# Altium schematic symbol library fpga_xilinx_ultrascale.SchLib: 7 symbols (part 1 of 6)
Pins are listed as number, name and electrical type; pins without a type are passive.

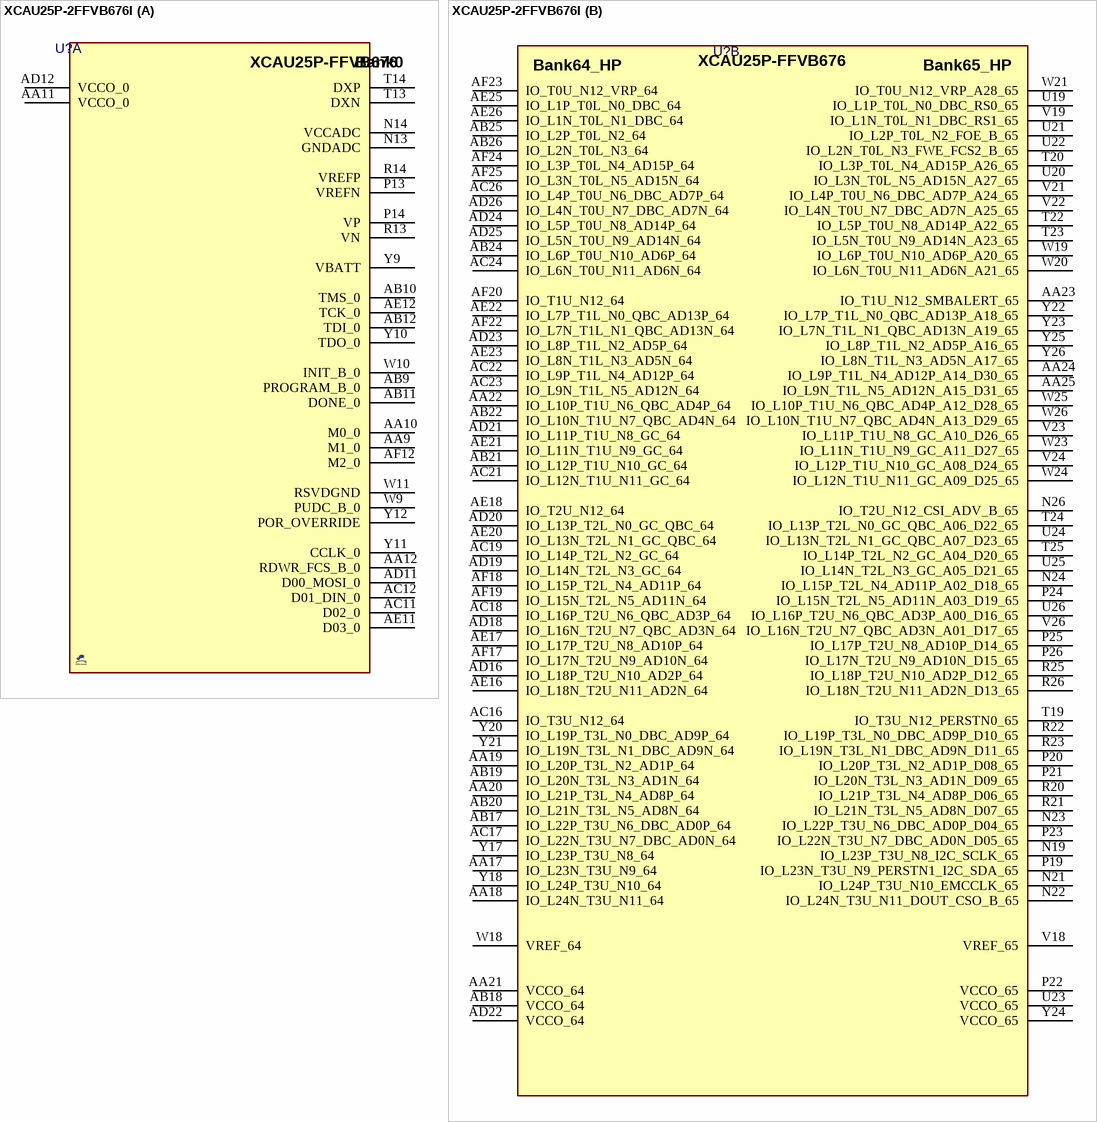
[diagram p0: symbol XCAU25P-2FFVB676I]

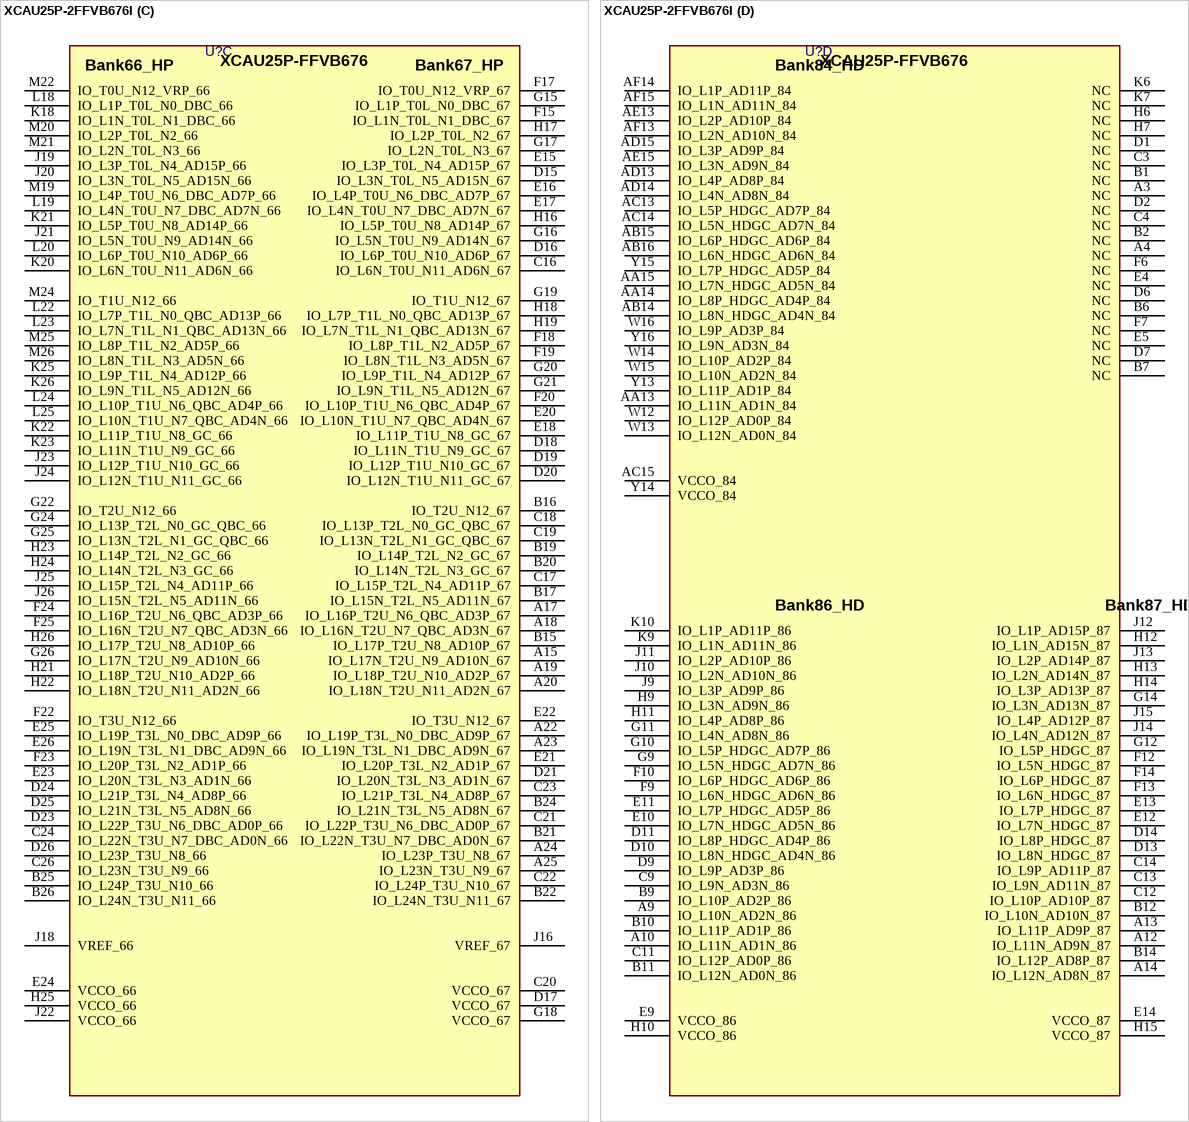
[diagram p1: symbol XCAU25P-2FFVB676I]

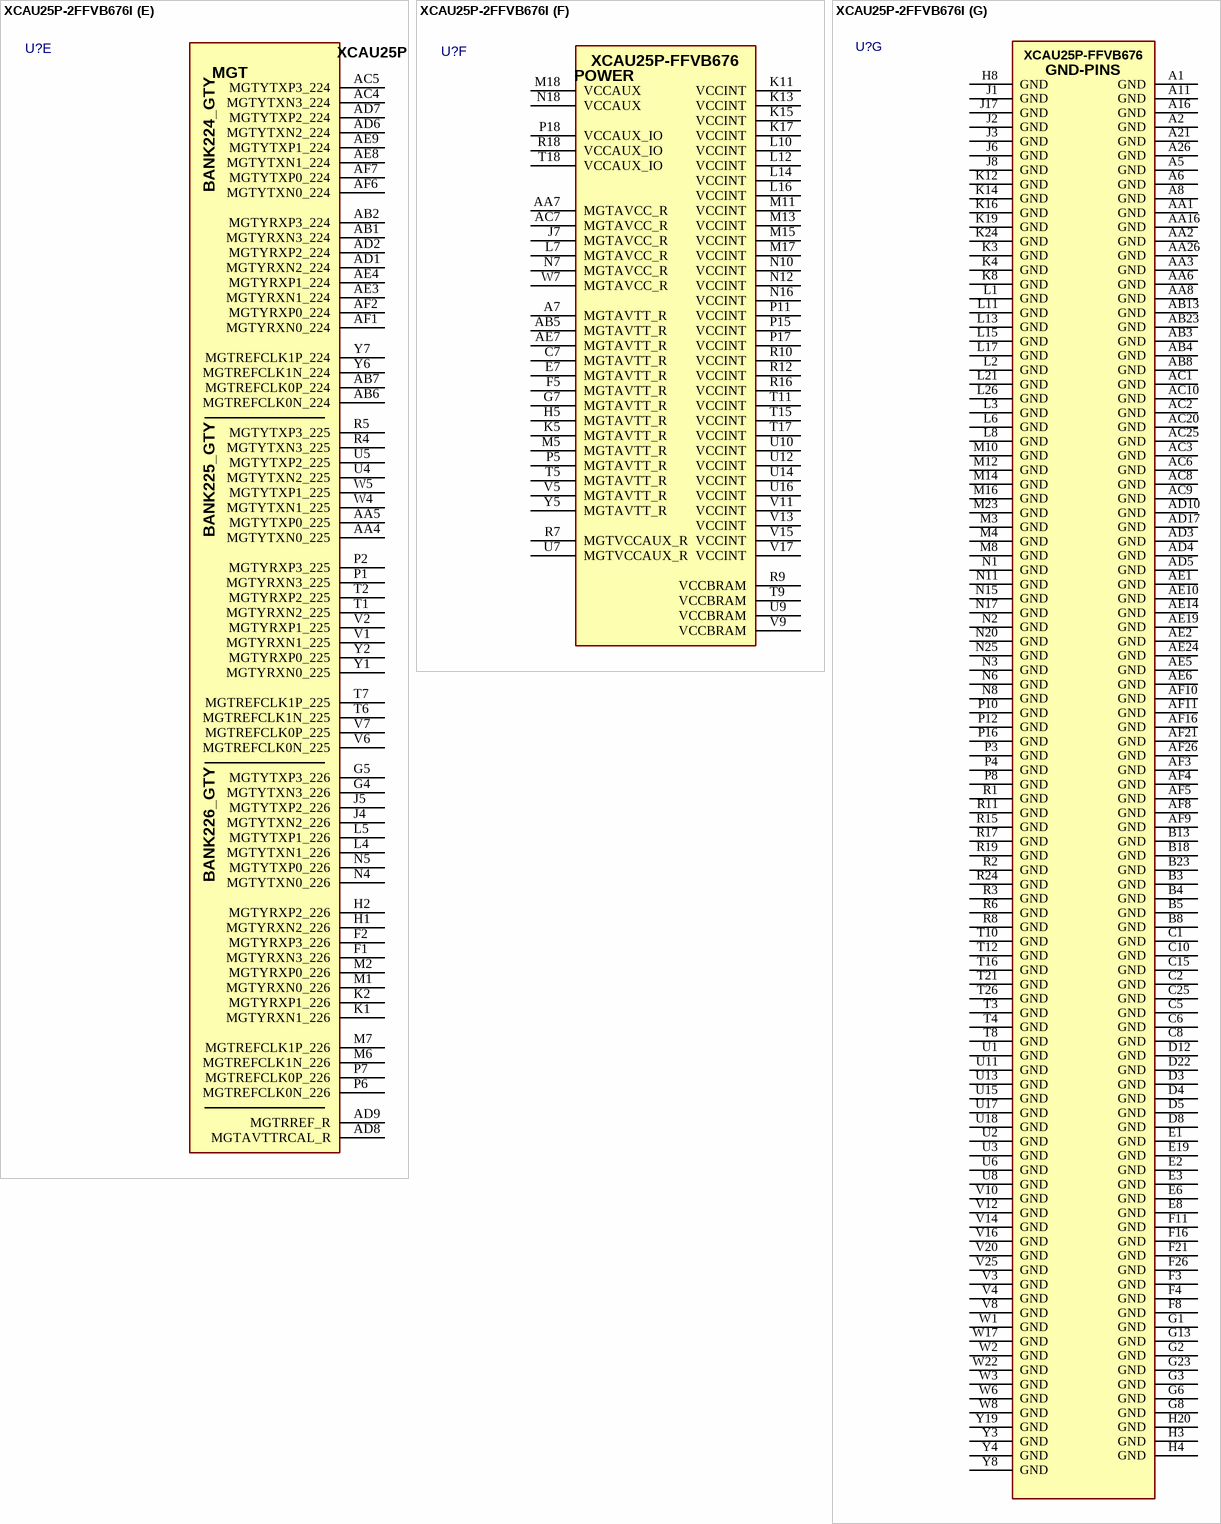
[diagram p2: symbol XCAU25P-2FFVB676I]

## XCAU25P-2FFVB676I
designator U?  (value not drawn)
Xilinx FPGA Ultrascale, ARTIX, AU25P, 280  I/O, 308.5K logic cell, 96 HR, 208 HP, 12 GY; PARAM2: 0.825V ~ 0.876V; ASSEMBLY: ASSEMBLY; MANF: XILINX; MANF_P#: XCAU25P-2FFVB676I; PRICE: 0; VALUE: XCAU25P-2FFVB676I; PACKAGE: FFVB676
footprint BGA100_676_S27 (BGA, 676-Leads, Body 27.0x27.0mm,  Pitch 1.00mm)
part A pins: AA9 M1_0, AA10 M0_0, AA11 VCCO_0, AA12 RDWR_FCS_B_0, AB9 PROGRAM_B_0, AB10 TMS_0, AB11 DONE_0, AB12 TDI_0, AC11 D02_0, AC12 D01_DIN_0, AD11 D00_MOSI_0, AD12 VCCO_0, AE11 D03_0, AE12 TCK_0, AF12 M2_0, N13 GNDADC, N14 VCCADC, P13 VREFN, P14 VP, R13 VN, R14 VREFP, T13 DXN, T14 DXP, W9 PUDC_B_0, W10 INIT_B_0, W11 RSVDGND, Y9 VBATT, Y10 TDO_0, Y11 CCLK_0, Y12 POR_OVERRIDE
part B pins: AA17 IO_L23N_T3U_N9_64, AA18 IO_L24N_T3U_N11_64, AA19 IO_L20P_T3L_N2_AD1P_64, AA20 IO_L21P_T3L_N4_AD8P_64, AA21 VCCO_64, AA22 IO_L10P_T1U_N6_QBC_AD4P_64, AA23 IO_T1U_N12_SMBALERT_65, AA24 IO_L9P_T1L_N4_AD12P_A14_D30_65, AA25 IO_L9N_T1L_N5_AD12N_A15_D31_65, AB17 IO_L22P_T3U_N6_DBC_AD0P_64, AB18 VCCO_64, AB19 IO_L20N_T3L_N3_AD1N_64, AB20 IO_L21N_T3L_N5_AD8N_64, AB21 IO_L12P_T1U_N10_GC_64, AB22 IO_L10N_T1U_N7_QBC_AD4N_64, AB24 IO_L6P_T0U_N10_AD6P_64, AB25 IO_L2P_T0L_N2_64, AB26 IO_L2N_T0L_N3_64, AC16 IO_T3U_N12_64, AC17 IO_L22N_T3U_N7_DBC_AD0N_64, AC18 IO_L16P_T2U_N6_QBC_AD3P_64, AC19 IO_L14P_T2L_N2_GC_64, AC21 IO_L12N_T1U_N11_GC_64, AC22 IO_L9P_T1L_N4_AD12P_64, AC23 IO_L9N_T1L_N5_AD12N_64, AC24 IO_L6N_T0U_N11_AD6N_64, AC26 IO_L4P_T0U_N6_DBC_AD7P_64, AD16 IO_L18P_T2U_N10_AD2P_64, AD18 IO_L16N_T2U_N7_QBC_AD3N_64, AD19 IO_L14N_T2L_N3_GC_64, AD20 IO_L13P_T2L_N0_GC_QBC_64, AD21 IO_L11P_T1U_N8_GC_64, AD22 VCCO_64, AD23 IO_L8P_T1L_N2_AD5P_64, AD24 IO_L5P_T0U_N8_AD14P_64, AD25 IO_L5N_T0U_N9_AD14N_64, AD26 IO_L4N_T0U_N7_DBC_AD7N_64, AE16 IO_L18N_T2U_N11_AD2N_64, AE17 IO_L17P_T2U_N8_AD10P_64, AE18 IO_T2U_N12_64, AE20 IO_L13N_T2L_N1_GC_QBC_64, AE21 IO_L11N_T1U_N9_GC_64, AE22 IO_L7P_T1L_N0_QBC_AD13P_64, AE23 IO_L8N_T1L_N3_AD5N_64, AE25 IO_L1P_T0L_N0_DBC_64, AE26 IO_L1N_T0L_N1_DBC_64, AF17 IO_L17N_T2U_N9_AD10N_64, AF18 IO_L15P_T2L_N4_AD11P_64, AF19 IO_L15N_T2L_N5_AD11N_64, AF20 IO_T1U_N12_64, AF22 IO_L7N_T1L_N1_QBC_AD13N_64, AF23 IO_T0U_N12_VRP_64, AF24 IO_L3P_T0L_N4_AD15P_64, AF25 IO_L3N_T0L_N5_AD15N_64, N19 IO_L23P_T3U_N8_I2C_SCLK_65, N21 IO_L24P_T3U_N10_EMCCLK_65, N22 IO_L24N_T3U_N11_DOUT_CSO_B_65, N23 IO_L22P_T3U_N6_DBC_AD0P_D04_65, N24 IO_L15P_T2L_N4_AD11P_A02_D18_65, N26 IO_T2U_N12_CSI_ADV_B_65, P19 IO_L23N_T3U_N9_PERSTN1_I2C_SDA_65, P20 IO_L20P_T3L_N2_AD1P_D08_65, P21 IO_L20N_T3L_N3_AD1N_D09_65, P22 VCCO_65, P23 IO_L22N_T3U_N7_DBC_AD0N_D05_65, P24 IO_L15N_T2L_N5_AD11N_A03_D19_65, P25 IO_L17P_T2U_N8_AD10P_D14_65, P26 IO_L17N_T2U_N9_AD10N_D15_65, R20 IO_L21P_T3L_N4_AD8P_D06_65, R21 IO_L21N_T3L_N5_AD8N_D07_65, R22 IO_L19P_T3L_N0_DBC_AD9P_D10_65, R23 IO_L19N_T3L_N1_DBC_AD9N_D11_65, R25 IO_L18P_T2U_N10_AD2P_D12_65, R26 IO_L18N_T2U_N11_AD2N_D13_65, T19 IO_T3U_N12_PERSTN0_65, T20 IO_L3P_T0L_N4_AD15P_A26_65, T22 IO_L5P_T0U_N8_AD14P_A22_65, T23 IO_L5N_T0U_N9_AD14N_A23_65, T24 IO_L13P_T2L_N0_GC_QBC_A06_D22_65, T25 IO_L14P_T2L_N2_GC_A04_D20_65, U19 IO_L1P_T0L_N0_DBC_RS0_65, U20 IO_L3N_T0L_N5_AD15N_A27_65, U21 IO_L2P_T0L_N2_FOE_B_65, U22 IO_L2N_T0L_N3_FWE_FCS2_B_65, U23 VCCO_65, U24 IO_L13N_T2L_N1_GC_QBC_A07_D23_65, U25 IO_L14N_T2L_N3_GC_A05_D21_65, U26 IO_L16P_T2U_N6_QBC_AD3P_A00_D16_65, V18 VREF_65, V19 IO_L1N_T0L_N1_DBC_RS1_65, V21 IO_L4P_T0U_N6_DBC_AD7P_A24_65, V22 IO_L4N_T0U_N7_DBC_AD7N_A25_65, V23 IO_L11P_T1U_N8_GC_A10_D26_65, V24 IO_L12P_T1U_N10_GC_A08_D24_65, V26 IO_L16N_T2U_N7_QBC_AD3N_A01_D17_65, W18 VREF_64, W19 IO_L6P_T0U_N10_AD6P_A20_65, W20 IO_L6N_T0U_N11_AD6N_A21_65, W21 IO_T0U_N12_VRP_A28_65, W23 IO_L11N_T1U_N9_GC_A11_D27_65, W24 IO_L12N_T1U_N11_GC_A09_D25_65, W25 IO_L10P_T1U_N6_QBC_AD4P_A12_D28_65, W26 IO_L10N_T1U_N7_QBC_AD4N_A13_D29_65, Y17 IO_L23P_T3U_N8_64, Y18 IO_L24P_T3U_N10_64, Y20 IO_L19P_T3L_N0_DBC_AD9P_64, Y21 IO_L19N_T3L_N1_DBC_AD9N_64, Y22 IO_L7P_T1L_N0_QBC_AD13P_A18_65, Y23 IO_L7N_T1L_N1_QBC_AD13N_A19_65, Y24 VCCO_65, Y25 IO_L8P_T1L_N2_AD5P_A16_65, Y26 IO_L8N_T1L_N3_AD5N_A17_65
part C pins: A15 IO_L17N_T2U_N9_AD10N_67, A17 IO_L16P_T2U_N6_QBC_AD3P_67, A18 IO_L16N_T2U_N7_QBC_AD3N_67, A19 IO_L18P_T2U_N10_AD2P_67, A20 IO_L18N_T2U_N11_AD2N_67, A22 IO_L19P_T3L_N0_DBC_AD9P_67, A23 IO_L19N_T3L_N1_DBC_AD9N_67, A24 IO_L23P_T3U_N8_67, A25 IO_L23N_T3U_N9_67, B15 IO_L17P_T2U_N8_AD10P_67, B16 IO_T2U_N12_67, B17 IO_L15N_T2L_N5_AD11N_67, B19 IO_L14P_T2L_N2_GC_67, B20 IO_L14N_T2L_N3_GC_67, B21 IO_L22N_T3U_N7_DBC_AD0N_67, B22 IO_L24N_T3U_N11_67, B24 IO_L21N_T3L_N5_AD8N_67, B25 IO_L24P_T3U_N10_66, B26 IO_L24N_T3U_N11_66, C16 IO_L6N_T0U_N11_AD6N_67, C17 IO_L15P_T2L_N4_AD11P_67, C18 IO_L13P_T2L_N0_GC_QBC_67, C19 IO_L13N_T2L_N1_GC_QBC_67, C20 VCCO_67, C21 IO_L22P_T3U_N6_DBC_AD0P_67, C22 IO_L24P_T3U_N10_67, C23 IO_L21P_T3L_N4_AD8P_67, C24 IO_L22N_T3U_N7_DBC_AD0N_66, C26 IO_L23N_T3U_N9_66, D15 IO_L3N_T0L_N5_AD15N_67, D16 IO_L6P_T0U_N10_AD6P_67, D17 VCCO_67, D18 IO_L11N_T1U_N9_GC_67, D19 IO_L12P_T1U_N10_GC_67, D20 IO_L12N_T1U_N11_GC_67, D21 IO_L20N_T3L_N3_AD1N_67, D23 IO_L22P_T3U_N6_DBC_AD0P_66, D24 IO_L21P_T3L_N4_AD8P_66, D25 IO_L21N_T3L_N5_AD8N_66, D26 IO_L23P_T3U_N8_66, E15 IO_L3P_T0L_N4_AD15P_67, E16 IO_L4P_T0U_N6_DBC_AD7P_67, E17 IO_L4N_T0U_N7_DBC_AD7N_67, E18 IO_L11P_T1U_N8_GC_67, E20 IO_L10N_T1U_N7_QBC_AD4N_67, E21 IO_L20P_T3L_N2_AD1P_67, E22 IO_T3U_N12_67, E23 IO_L20N_T3L_N3_AD1N_66, E24 VCCO_66, E25 IO_L19P_T3L_N0_DBC_AD9P_66, E26 IO_L19N_T3L_N1_DBC_AD9N_66, F15 IO_L1N_T0L_N1_DBC_67, F17 IO_T0U_N12_VRP_67, F18 IO_L8P_T1L_N2_AD5P_67, F19 IO_L8N_T1L_N3_AD5N_67, F20 IO_L10P_T1U_N6_QBC_AD4P_67, F22 IO_T3U_N12_66, F23 IO_L20P_T3L_N2_AD1P_66, F24 IO_L16P_T2U_N6_QBC_AD3P_66, F25 IO_L16N_T2U_N7_QBC_AD3N_66, G15 IO_L1P_T0L_N0_DBC_67, G16 IO_L5N_T0U_N9_AD14N_67, G17 IO_L2N_T0L_N3_67, G18 VCCO_67, G19 IO_T1U_N12_67, G20 IO_L9P_T1L_N4_AD12P_67, G21 IO_L9N_T1L_N5_AD12N_67, G22 IO_T2U_N12_66, G24 IO_L13P_T2L_N0_GC_QBC_66, G25 IO_L13N_T2L_N1_GC_QBC_66, G26 IO_L17N_T2U_N9_AD10N_66, H16 IO_L5P_T0U_N8_AD14P_67, H17 IO_L2P_T0L_N2_67, H18 IO_L7P_T1L_N0_QBC_AD13P_67, H19 IO_L7N_T1L_N1_QBC_AD13N_67, H21 IO_L18P_T2U_N10_AD2P_66, H22 IO_L18N_T2U_N11_AD2N_66, H23 IO_L14P_T2L_N2_GC_66, H24 IO_L14N_T2L_N3_GC_66, H25 VCCO_66, H26 IO_L17P_T2U_N8_AD10P_66, J16 VREF_67, J18 VREF_66, J19 IO_L3P_T0L_N4_AD15P_66, J20 IO_L3N_T0L_N5_AD15N_66, J21 IO_L5N_T0U_N9_AD14N_66, J22 VCCO_66, J23 IO_L12P_T1U_N10_GC_66, J24 IO_L12N_T1U_N11_GC_66, J25 IO_L15P_T2L_N4_AD11P_66, J26 IO_L15N_T2L_N5_AD11N_66, K18 IO_L1N_T0L_N1_DBC_66, K20 IO_L6N_T0U_N11_AD6N_66, K21 IO_L5P_T0U_N8_AD14P_66, K22 IO_L11P_T1U_N8_GC_66, K23 IO_L11N_T1U_N9_GC_66, K25 IO_L9P_T1L_N4_AD12P_66, K26 IO_L9N_T1L_N5_AD12N_66, L18 IO_L1P_T0L_N0_DBC_66, L19 IO_L4N_T0U_N7_DBC_AD7N_66, L20 IO_L6P_T0U_N10_AD6P_66, L22 IO_L7P_T1L_N0_QBC_AD13P_66, L23 IO_L7N_T1L_N1_QBC_AD13N_66, L24 IO_L10P_T1U_N6_QBC_AD4P_66, L25 IO_L10N_T1U_N7_QBC_AD4N_66, M19 IO_L4P_T0U_N6_DBC_AD7P_66, M20 IO_L2P_T0L_N2_66, M21 IO_L2N_T0L_N3_66, M22 IO_T0U_N12_VRP_66, M24 IO_T1U_N12_66, M25 IO_L8P_T1L_N2_AD5P_66, M26 IO_L8N_T1L_N3_AD5N_66
part D pins: A3 NC, A4 NC, A9 IO_L10N_AD2N_86, A10 IO_L11N_AD1N_86, A12 IO_L11N_AD9N_87, A13 IO_L11P_AD9P_87, A14 IO_L12N_AD8N_87, AA13 IO_L11N_AD1N_84, AA14 IO_L8P_HDGC_AD4P_84, AA15 IO_L7N_HDGC_AD5N_84, AB14 IO_L8N_HDGC_AD4N_84, AB15 IO_L6P_HDGC_AD6P_84, AB16 IO_L6N_HDGC_AD6N_84, AC13 IO_L5P_HDGC_AD7P_84, AC14 IO_L5N_HDGC_AD7N_84, AC15 VCCO_84, AD13 IO_L4P_AD8P_84, AD14 IO_L4N_AD8N_84, AD15 IO_L3P_AD9P_84, AE13 IO_L2P_AD10P_84, AE15 IO_L3N_AD9N_84, AF13 IO_L2N_AD10N_84, AF14 IO_L1P_AD11P_84, AF15 IO_L1N_AD11N_84, B1 NC, B2 NC, B6 NC, B7 NC, B9 IO_L10P_AD2P_86, B10 IO_L11P_AD1P_86, B11 IO_L12N_AD0N_86, B12 IO_L10N_AD10N_87, B14 IO_L12P_AD8P_87, C3 NC, C4 NC, C9 IO_L9N_AD3N_86, C11 IO_L12P_AD0P_86, C12 IO_L10P_AD10P_87, C13 IO_L9N_AD11N_87, C14 IO_L9P_AD11P_87, D1 NC, D2 NC, D6 NC, D7 NC, D9 IO_L9P_AD3P_86, D10 IO_L8N_HDGC_AD4N_86, D11 IO_L8P_HDGC_AD4P_86, D13 IO_L8N_HDGC_87, D14 IO_L8P_HDGC_87, E4 NC, E5 NC, E9 VCCO_86, E10 IO_L7N_HDGC_AD5N_86, E11 IO_L7P_HDGC_AD5P_86, E12 IO_L7N_HDGC_87, E13 IO_L7P_HDGC_87, E14 VCCO_87, F6 NC, F7 NC, F9 IO_L6N_HDGC_AD6N_86, F10 IO_L6P_HDGC_AD6P_86, F12 IO_L5N_HDGC_87, F13 IO_L6N_HDGC_87, F14 IO_L6P_HDGC_87, G9 IO_L5N_HDGC_AD7N_86, G10 IO_L5P_HDGC_AD7P_86, G11 IO_L4N_AD8N_86, G12 IO_L5P_HDGC_87, G14 IO_L3N_AD13N_87, H6 NC, H7 NC, H9 IO_L3N_AD9N_86, H10 VCCO_86, H11 IO_L4P_AD8P_86, H12 IO_L1N_AD15N_87, H13 IO_L2N_AD14N_87, H14 IO_L3P_AD13P_87, H15 VCCO_87, J9 IO_L3P_AD9P_86, J10 IO_L2N_AD10N_86, J11 IO_L2P_AD10P_86, J12 IO_L1P_AD15P_87, J13 IO_L2P_AD14P_87, J14 IO_L4N_AD12N_87, J15 IO_L4P_AD12P_87, K6 NC, K7 NC, K9 IO_L1N_AD11N_86, K10 IO_L1P_AD11P_86, W12 IO_L12P_AD0P_84, W13 IO_L12N_AD0N_84, W14 IO_L10P_AD2P_84, W15 IO_L10N_AD2N_84, W16 IO_L9P_AD3P_84, Y13 IO_L11P_AD1P_84, Y14 VCCO_84, Y15 IO_L7P_HDGC_AD5P_84, Y16 IO_L9N_AD3N_84
part E pins: AA4 MGTYTXN0_225, AA5 MGTYTXP0_225, AB1 MGTYRXN3_224, AB2 MGTYRXP3_224, AB6 MGTREFCLK0N_224, AB7 MGTREFCLK0P_224, AC4 MGTYTXN3_224, AC5 MGTYTXP3_224, AD1 MGTYRXN2_224, AD2 MGTYRXP2_224, AD6 MGTYTXN2_224, AD7 MGTYTXP2_224, AD8 MGTAVTTRCAL_R, AD9 MGTRREF_R, AE3 MGTYRXN1_224, AE4 MGTYRXP1_224, AE8 MGTYTXN1_224, AE9 MGTYTXP1_224, AF1 MGTYRXN0_224, AF2 MGTYRXP0_224, AF6 MGTYTXN0_224, AF7 MGTYTXP0_224, F1 MGTYRXN3_226, F2 MGTYRXP3_226, G4 MGTYTXN3_226, G5 MGTYTXP3_226, H1 MGTYRXN2_226, H2 MGTYRXP2_226, J4 MGTYTXN2_226, J5 MGTYTXP2_226, K1 MGTYRXN1_226, K2 MGTYRXP1_226, L4 MGTYTXN1_226, L5 MGTYTXP1_226, M1 MGTYRXN0_226, M2 MGTYRXP0_226, M6 MGTREFCLK1N_226, M7 MGTREFCLK1P_226, N4 MGTYTXN0_226, N5 MGTYTXP0_226, P1 MGTYRXN3_225, P2 MGTYRXP3_225, P6 MGTREFCLK0N_226, P7 MGTREFCLK0P_226, R4 MGTYTXN3_225, R5 MGTYTXP3_225, T1 MGTYRXN2_225, T2 MGTYRXP2_225, T6 MGTREFCLK1N_225, T7 MGTREFCLK1P_225, U4 MGTYTXN2_225, U5 MGTYTXP2_225, V1 MGTYRXN1_225, V2 MGTYRXP1_225, V6 MGTREFCLK0N_225, V7 MGTREFCLK0P_225, W4 MGTYTXN1_225, W5 MGTYTXP1_225, Y1 MGTYRXN0_225, Y2 MGTYRXP0_225, Y6 MGTREFCLK1N_224, Y7 MGTREFCLK1P_224
part F pins: A7 MGTAVTT_R, AA7 MGTAVCC_R, AB5 MGTAVTT_R, AC7 MGTAVCC_R, AE7 MGTAVTT_R, C7 MGTAVTT_R, E7 MGTAVTT_R, F5 MGTAVTT_R, G7 MGTAVTT_R, H5 MGTAVTT_R, J7 MGTAVCC_R, K5 MGTAVTT_R, K11 VCCINT, K13 VCCINT, K15 VCCINT, K17 VCCINT, L7 MGTAVCC_R, L10 VCCINT, L12 VCCINT, L14 VCCINT, L16 VCCINT, M5 MGTAVTT_R, M11 VCCINT, M13 VCCINT, M15 VCCINT, M17 VCCINT, M18 VCCAUX, N7 MGTAVCC_R, N10 VCCINT, N12 VCCINT, N16 VCCINT, N18 VCCAUX, P5 MGTAVTT_R, P11 VCCINT, P15 VCCINT, P17 VCCINT, P18 VCCAUX_IO, R7 MGTVCCAUX_R, R9 VCCBRAM, R10 VCCINT, R12 VCCINT, R16 VCCINT, R18 VCCAUX_IO, T5 MGTAVTT_R, T9 VCCBRAM, T11 VCCINT, T15 VCCINT, T17 VCCINT, T18 VCCAUX_IO, U7 MGTVCCAUX_R, U9 VCCBRAM, U10 VCCINT, U12 VCCINT, U14 VCCINT, U16 VCCINT, V5 MGTAVTT_R, V9 VCCBRAM, V11 VCCINT, V13 VCCINT, V15 VCCINT, V17 VCCINT, W7 MGTAVCC_R, Y5 MGTAVTT_R
part G pins: A1 GND, A2 GND, A5 GND, A6 GND, A8 GND, A11 GND, A16 GND, A21 GND, A26 GND, AA1 GND, AA2 GND, AA3 GND, AA6 GND, AA8 GND, AA16 GND, AA26 GND, AB3 GND, AB4 GND, AB8 GND, AB13 GND, AB23 GND, AC1 GND, AC2 GND, AC3 GND, AC6 GND, AC8 GND, AC9 GND, AC10 GND, AC20 GND, AC25 GND, AD3 GND, AD4 GND, AD5 GND, AD10 GND, AD17 GND, AE1 GND, AE2 GND, AE5 GND, AE6 GND, AE10 GND, AE14 GND, AE19 GND, AE24 GND, AF3 GND, AF4 GND, AF5 GND, AF8 GND, AF9 GND, AF10 GND, AF11 GND, AF16 GND, AF21 GND, AF26 GND, B3 GND, B4 GND, B5 GND, B8 GND, B13 GND, B18 GND, B23 GND, C1 GND, C2 GND, C5 GND, C6 GND, C8 GND, C10 GND, C15 GND, C25 GND, D3 GND, D4 GND, D5 GND, D8 GND, D12 GND, D22 GND, E1 GND, E2 GND, E3 GND, E6 GND, E8 GND, E19 GND, F3 GND, F4 GND, F8 GND, F11 GND, F16 GND, F21 GND, F26 GND, G1 GND, G2 GND, G3 GND, G6 GND, G8 GND, G13 GND, G23 GND, H3 GND, H4 GND, H8 GND, H20 GND, J1 GND, J2 GND, J3 GND, J6 GND, J8 GND, J17 GND, K3 GND, K4 GND, K8 GND, K12 GND, K14 GND, K16 GND, K19 GND, K24 GND, L1 GND, L2 GND, L3 GND, L6 GND, L8 GND, L11 GND, L13 GND, L15 GND, L17 GND, L21 GND, L26 GND, M3 GND, M4 GND, M8 GND, M10 GND, M12 GND, M14 GND, M16 GND, M23 GND, N1 GND, N2 GND, N3 GND, N6 GND, N8 GND, N11 GND, N15 GND, N17 GND, N20 GND, N25 GND, P3 GND, P4 GND, P8 GND, P10 GND, P12 GND, P16 GND, R1 GND, R2 GND, R3 GND, R6 GND, R8 GND, R11 GND, R15 GND, R17 GND, R19 GND, R24 GND, T3 GND, T4 GND, T8 GND, T10 GND, T12 GND, T16 GND, T21 GND, T26 GND, U1 GND, U2 GND, U3 GND, U6 GND, U8 GND, U11 GND, U13 GND, U15 GND, U17 GND, U18 GND, V3 GND, V4 GND, V8 GND, V10 GND, V12 GND, V14 GND, V16 GND, V20 GND, V25 GND, W1 GND, W2 GND, W3 GND, W6 GND, W8 GND, W17 GND, W22 GND, Y3 GND, Y4 GND, Y8 GND, Y19 GND
part A text: XCAU25P-FFVB676; Bank0
part B text: XCAU25P-FFVB676; Bank64_HP; Bank65_HP
part C text: XCAU25P-FFVB676; Bank66_HP; Bank67_HP
part D text: XCAU25P-FFVB676; Bank84_HD; Bank86_HD; Bank87_HD
part E text: XCAU25P-FFVB676; MGT; BANK224_GTY; BANK225_GTY; BANK226_GTY
part F text: XCAU25P-FFVB676; POWER
part G text: XCAU25P-FFVB676; GND-PINS

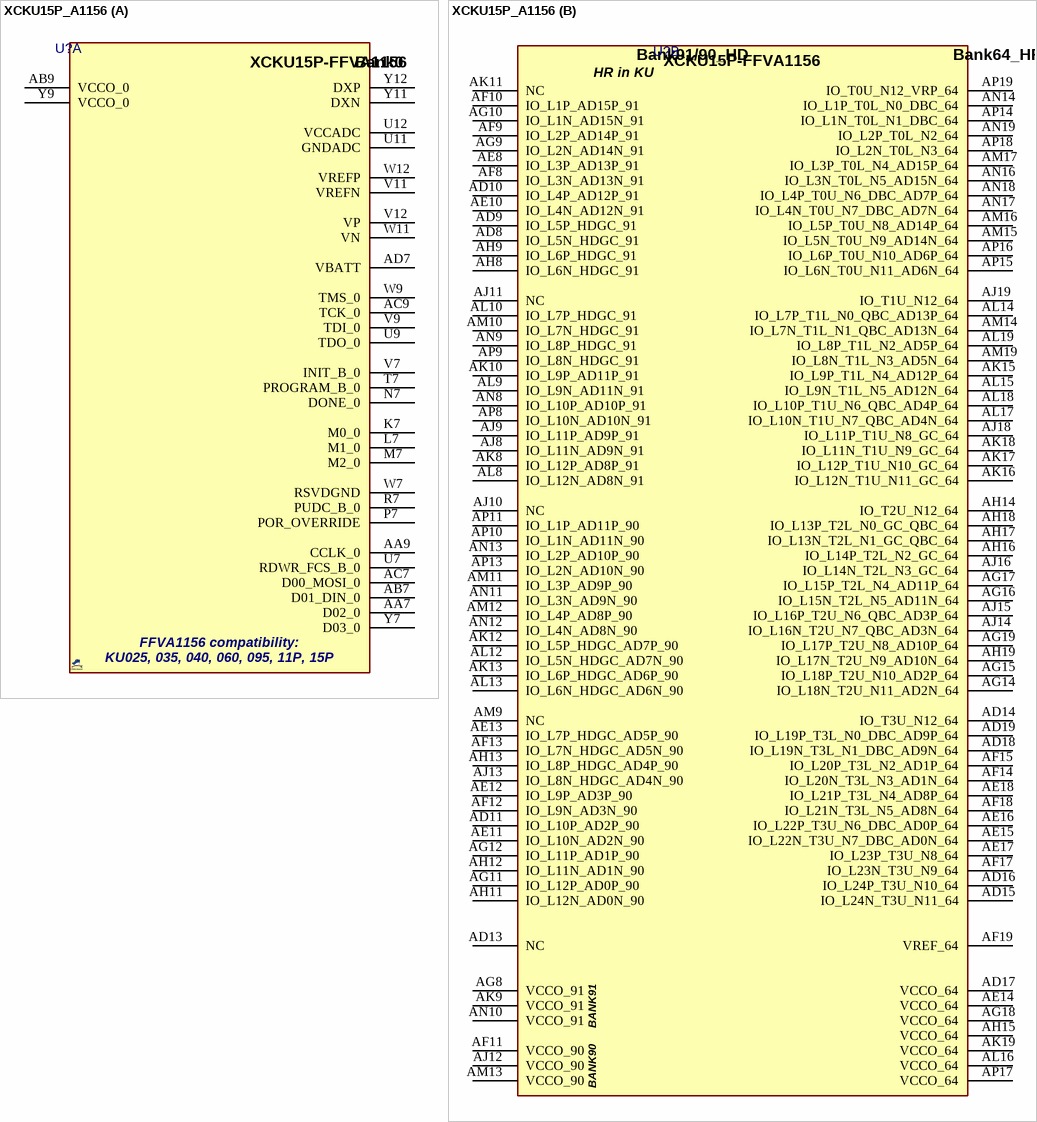
[diagram p3: symbol XCKU15P_A1156]

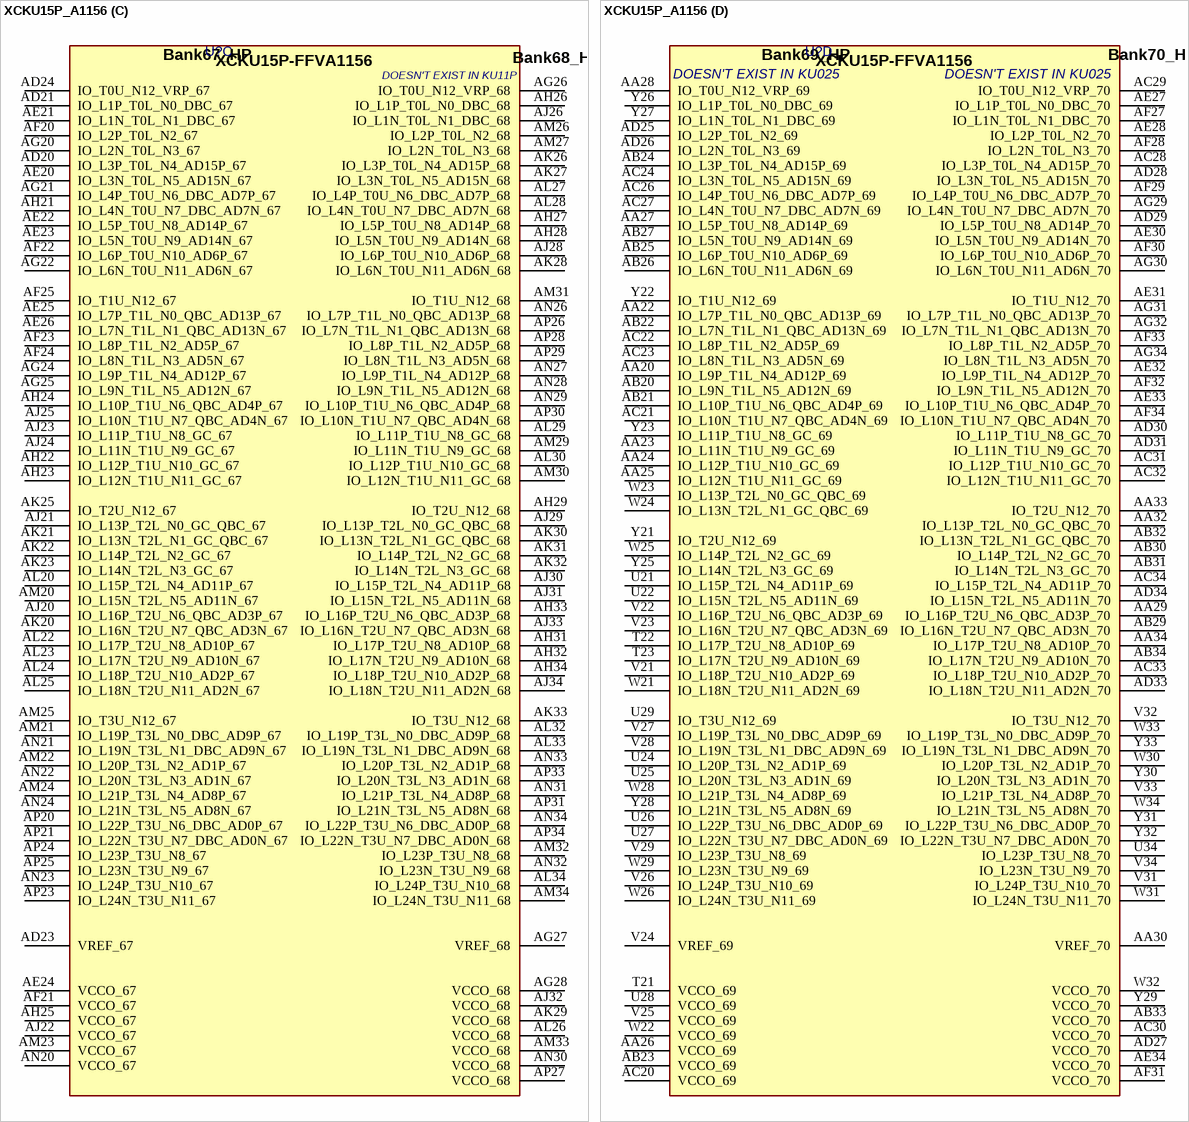
[diagram p4: symbol XCKU15P_A1156]

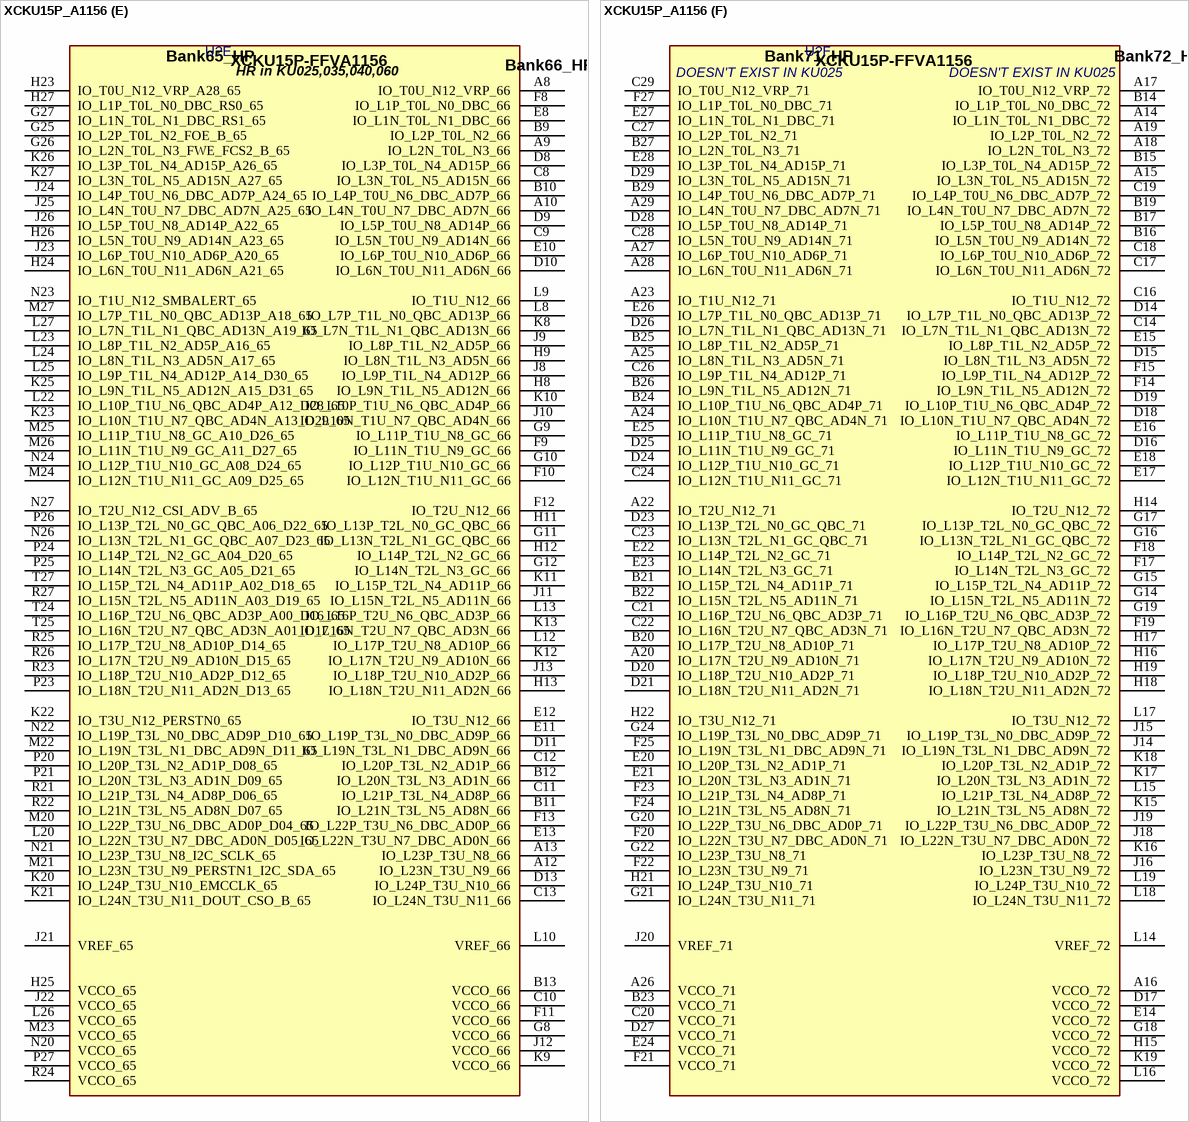
[diagram p5: symbol XCKU15P_A1156]

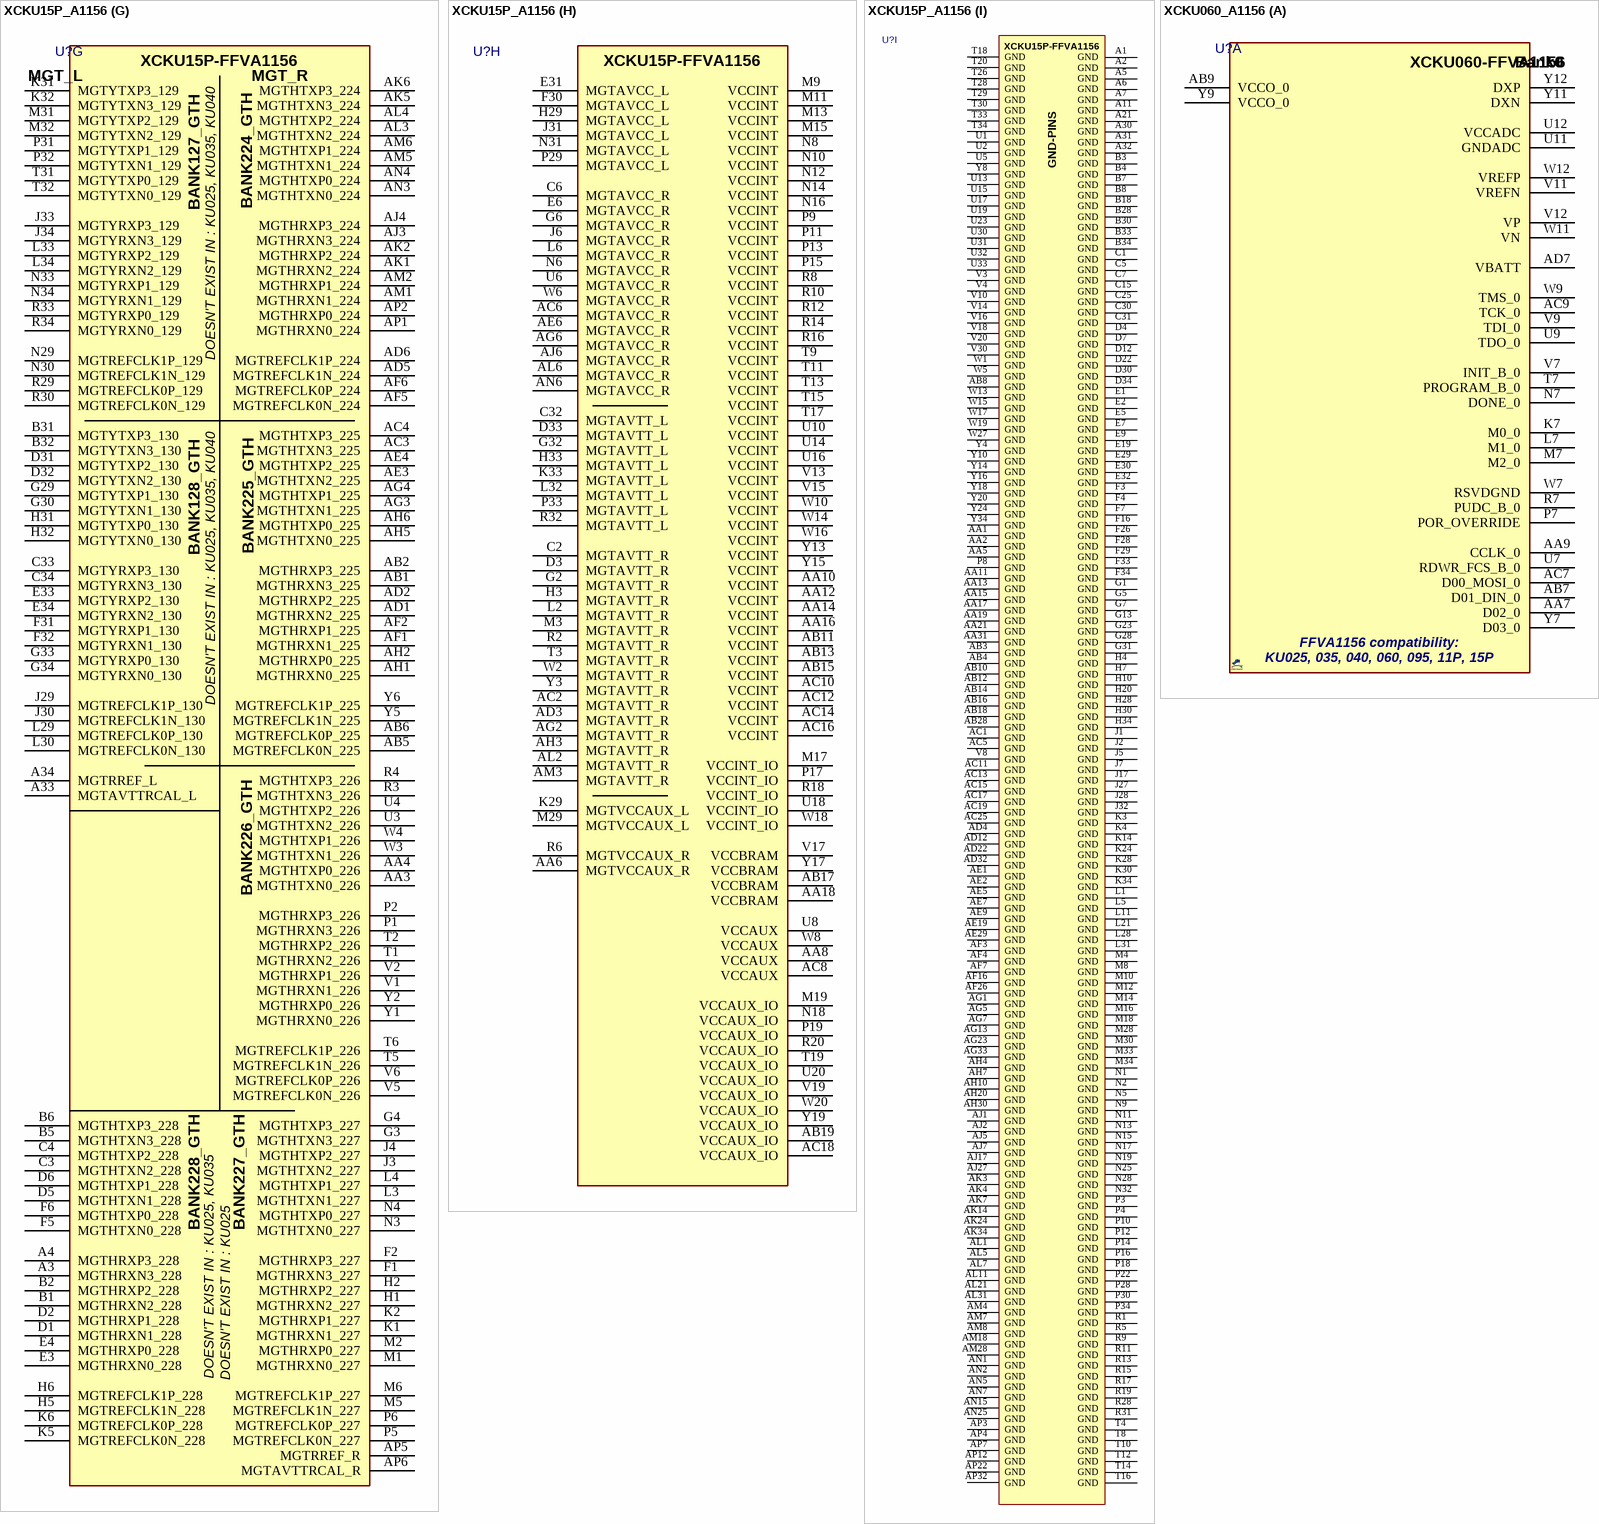
[diagram p6: symbols XCKU15P_A1156 to XCKU060_A1156]

## XCKU15P_A1156
designator U?, comment XCKU15P-FFVA1156  (value not drawn)
Xilinx FPGA Ultrascale+, Kintex, KU15P, 516 I/O, 1143K logic cell, 48 HD, 468 HP, 28 GT; MANF_P#: XCKU15P-2FFVA1156I; ASSEMBLY: ASSEMBLY; MANF: XILINX; VALUE: XCKU15P-FFVA1156; PACKAGE: FFVA1156
footprint BGA100_1156_S35 (BGA, 1156-Leads, FFVA1156, 35x35mm,  Pitch 1.00mm)
part A pins: AA7 D02_0, AA9 CCLK_0, AB7 D01_DIN_0, AB9 VCCO_0, AC7 D00_MOSI_0, AC9 TCK_0, AD7 VBATT, K7 M0_0, L7 M1_0, M7 M2_0, N7 DONE_0, P7 POR_OVERRIDE, R7 PUDC_B_0, T7 PROGRAM_B_0, U7 RDWR_FCS_B_0, U9 TDO_0, U11 GNDADC, U12 VCCADC, V7 INIT_B_0, V9 TDI_0, V11 VREFN, V12 VP, W7 RSVDGND, W9 TMS_0, W11 VN, W12 VREFP, Y7 D03_0, Y9 VCCO_0, Y11 DXN, Y12 DXP
part B pins: AD8 IO_L5N_HDGC_91, AD9 IO_L5P_HDGC_91, AD10 IO_L4P_AD12P_91, AD11 IO_L10P_AD2P_90, AD13 NC, AD14 IO_T3U_N12_64, AD15 IO_L24N_T3U_N11_64, AD16 IO_L24P_T3U_N10_64, AD17 VCCO_64, AD18 IO_L19N_T3L_N1_DBC_AD9N_64, AD19 IO_L19P_T3L_N0_DBC_AD9P_64, AE8 IO_L3P_AD13P_91, AE10 IO_L4N_AD12N_91, AE11 IO_L10N_AD2N_90, AE12 IO_L9P_AD3P_90, AE13 IO_L7P_HDGC_AD5P_90, AE14 VCCO_64, AE15 IO_L22N_T3U_N7_DBC_AD0N_64, AE16 IO_L22P_T3U_N6_DBC_AD0P_64, AE17 IO_L23P_T3U_N8_64, AE18 IO_L21P_T3L_N4_AD8P_64, AF8 IO_L3N_AD13N_91, AF9 IO_L2P_AD14P_91, AF10 IO_L1P_AD15P_91, AF11 VCCO_90, AF12 IO_L9N_AD3N_90, AF13 IO_L7N_HDGC_AD5N_90, AF14 IO_L20N_T3L_N3_AD1N_64, AF15 IO_L20P_T3L_N2_AD1P_64, AF17 IO_L23N_T3U_N9_64, AF18 IO_L21N_T3L_N5_AD8N_64, AF19 VREF_64, AG8 VCCO_91, AG9 IO_L2N_AD14N_91, AG10 IO_L1N_AD15N_91, AG11 IO_L12P_AD0P_90, AG12 IO_L11P_AD1P_90, AG14 IO_L18N_T2U_N11_AD2N_64, AG15 IO_L18P_T2U_N10_AD2P_64, AG16 IO_L15N_T2L_N5_AD11N_64, AG17 IO_L15P_T2L_N4_AD11P_64, AG18 VCCO_64, AG19 IO_L17P_T2U_N8_AD10P_64, AH8 IO_L6N_HDGC_91, AH9 IO_L6P_HDGC_91, AH11 IO_L12N_AD0N_90, AH12 IO_L11N_AD1N_90, AH13 IO_L8P_HDGC_AD4P_90, AH14 IO_T2U_N12_64, AH15 VCCO_64, AH16 IO_L14P_T2L_N2_GC_64, AH17 IO_L13N_T2L_N1_GC_QBC_64, AH18 IO_L13P_T2L_N0_GC_QBC_64, AH19 IO_L17N_T2U_N9_AD10N_64, AJ8 IO_L11N_AD9N_91, AJ9 IO_L11P_AD9P_91, AJ10 NC, AJ11 NC, AJ12 VCCO_90, AJ13 IO_L8N_HDGC_AD4N_90, AJ14 IO_L16N_T2U_N7_QBC_AD3N_64, AJ15 IO_L16P_T2U_N6_QBC_AD3P_64, AJ16 IO_L14N_T2L_N3_GC_64, AJ18 IO_L11P_T1U_N8_GC_64, AJ19 IO_T1U_N12_64, AK8 IO_L12P_AD8P_91, AK9 VCCO_91, AK10 IO_L9P_AD11P_91, AK11 NC, AK12 IO_L5P_HDGC_AD7P_90, AK13 IO_L6P_HDGC_AD6P_90, AK15 IO_L9P_T1L_N4_AD12P_64, AK16 IO_L12N_T1U_N11_GC_64, AK17 IO_L12P_T1U_N10_GC_64, AK18 IO_L11N_T1U_N9_GC_64, AK19 VCCO_64, AL8 IO_L12N_AD8N_91, AL9 IO_L9N_AD11N_91, AL10 IO_L7P_HDGC_91, AL12 IO_L5N_HDGC_AD7N_90, AL13 IO_L6N_HDGC_AD6N_90, AL14 IO_L7P_T1L_N0_QBC_AD13P_64, AL15 IO_L9N_T1L_N5_AD12N_64, AL16 VCCO_64, AL17 IO_L10N_T1U_N7_QBC_AD4N_64, AL18 IO_L10P_T1U_N6_QBC_AD4P_64, AL19 IO_L8P_T1L_N2_AD5P_64, AM9 NC, AM10 IO_L7N_HDGC_91, AM11 IO_L3P_AD9P_90, AM12 IO_L4P_AD8P_90, AM13 VCCO_90, AM14 IO_L7N_T1L_N1_QBC_AD13N_64, AM15 IO_L5N_T0U_N9_AD14N_64, AM16 IO_L5P_T0U_N8_AD14P_64, AM17 IO_L3P_T0L_N4_AD15P_64, AM19 IO_L8N_T1L_N3_AD5N_64, AN8 IO_L10P_AD10P_91, AN9 IO_L8P_HDGC_91, AN10 VCCO_91, AN11 IO_L3N_AD9N_90, AN12 IO_L4N_AD8N_90, AN13 IO_L2P_AD10P_90, AN14 IO_L1P_T0L_N0_DBC_64, AN16 IO_L3N_T0L_N5_AD15N_64, AN17 IO_L4N_T0U_N7_DBC_AD7N_64, AN18 IO_L4P_T0U_N6_DBC_AD7P_64, AN19 IO_L2P_T0L_N2_64, AP8 IO_L10N_AD10N_91, AP9 IO_L8N_HDGC_91, AP10 IO_L1N_AD11N_90, AP11 IO_L1P_AD11P_90, AP13 IO_L2N_AD10N_90, AP14 IO_L1N_T0L_N1_DBC_64, AP15 IO_L6N_T0U_N11_AD6N_64, AP16 IO_L6P_T0U_N10_AD6P_64, AP17 VCCO_64, AP18 IO_L2N_T0L_N3_64, AP19 IO_T0U_N12_VRP_64
part C pins: AD20 IO_L3P_T0L_N4_AD15P_67, AD21 IO_L1P_T0L_N0_DBC_67, AD23 VREF_67, AD24 IO_T0U_N12_VRP_67, AE20 IO_L3N_T0L_N5_AD15N_67, AE21 IO_L1N_T0L_N1_DBC_67, AE22 IO_L5P_T0U_N8_AD14P_67, AE23 IO_L5N_T0U_N9_AD14N_67, AE24 VCCO_67, AE25 IO_L7P_T1L_N0_QBC_AD13P_67, AE26 IO_L7N_T1L_N1_QBC_AD13N_67, AF20 IO_L2P_T0L_N2_67, AF21 VCCO_67, AF22 IO_L6P_T0U_N10_AD6P_67, AF23 IO_L8P_T1L_N2_AD5P_67, AF24 IO_L8N_T1L_N3_AD5N_67, AF25 IO_T1U_N12_67, AG20 IO_L2N_T0L_N3_67, AG21 IO_L4P_T0U_N6_DBC_AD7P_67, AG22 IO_L6N_T0U_N11_AD6N_67, AG24 IO_L9P_T1L_N4_AD12P_67, AG25 IO_L9N_T1L_N5_AD12N_67, AG26 IO_T0U_N12_VRP_68, AG27 VREF_68, AG28 VCCO_68, AH21 IO_L4N_T0U_N7_DBC_AD7N_67, AH22 IO_L12P_T1U_N10_GC_67, AH23 IO_L12N_T1U_N11_GC_67, AH24 IO_L10P_T1U_N6_QBC_AD4P_67, AH25 VCCO_67, AH26 IO_L1P_T0L_N0_DBC_68, AH27 IO_L5P_T0U_N8_AD14P_68, AH28 IO_L5N_T0U_N9_AD14N_68, AH29 IO_T2U_N12_68, AH31 IO_L17P_T2U_N8_AD10P_68, AH32 IO_L17N_T2U_N9_AD10N_68, AH33 IO_L16P_T2U_N6_QBC_AD3P_68, AH34 IO_L18P_T2U_N10_AD2P_68, AJ20 IO_L16P_T2U_N6_QBC_AD3P_67, AJ21 IO_L13P_T2L_N0_GC_QBC_67, AJ22 VCCO_67, AJ23 IO_L11P_T1U_N8_GC_67, AJ24 IO_L11N_T1U_N9_GC_67, AJ25 IO_L10N_T1U_N7_QBC_AD4N_67, AJ26 IO_L1N_T0L_N1_DBC_68, AJ28 IO_L6P_T0U_N10_AD6P_68, AJ29 IO_L13P_T2L_N0_GC_QBC_68, AJ30 IO_L15P_T2L_N4_AD11P_68, AJ31 IO_L15N_T2L_N5_AD11N_68, AJ32 VCCO_68, AJ33 IO_L16N_T2U_N7_QBC_AD3N_68, AJ34 IO_L18N_T2U_N11_AD2N_68, AK20 IO_L16N_T2U_N7_QBC_AD3N_67, AK21 IO_L13N_T2L_N1_GC_QBC_67, AK22 IO_L14P_T2L_N2_GC_67, AK23 IO_L14N_T2L_N3_GC_67, AK25 IO_T2U_N12_67, AK26 IO_L3P_T0L_N4_AD15P_68, AK27 IO_L3N_T0L_N5_AD15N_68, AK28 IO_L6N_T0U_N11_AD6N_68, AK29 VCCO_68, AK30 IO_L13N_T2L_N1_GC_QBC_68, AK31 IO_L14P_T2L_N2_GC_68, AK32 IO_L14N_T2L_N3_GC_68, AK33 IO_T3U_N12_68, AL20 IO_L15P_T2L_N4_AD11P_67, AL22 IO_L17P_T2U_N8_AD10P_67, AL23 IO_L17N_T2U_N9_AD10N_67, AL24 IO_L18P_T2U_N10_AD2P_67, AL25 IO_L18N_T2U_N11_AD2N_67, AL26 VCCO_68, AL27 IO_L4P_T0U_N6_DBC_AD7P_68, AL28 IO_L4N_T0U_N7_DBC_AD7N_68, AL29 IO_L11P_T1U_N8_GC_68, AL30 IO_L12P_T1U_N10_GC_68, AL32 IO_L19P_T3L_N0_DBC_AD9P_68, AL33 IO_L19N_T3L_N1_DBC_AD9N_68, AL34 IO_L24P_T3U_N10_68, AM20 IO_L15N_T2L_N5_AD11N_67, AM21 IO_L19P_T3L_N0_DBC_AD9P_67, AM22 IO_L20P_T3L_N2_AD1P_67, AM23 VCCO_67, AM24 IO_L21P_T3L_N4_AD8P_67, AM25 IO_T3U_N12_67, AM26 IO_L2P_T0L_N2_68, AM27 IO_L2N_T0L_N3_68, AM29 IO_L11N_T1U_N9_GC_68, AM30 IO_L12N_T1U_N11_GC_68, AM31 IO_T1U_N12_68, AM32 IO_L23P_T3U_N8_68, AM33 VCCO_68, AM34 IO_L24N_T3U_N11_68, AN20 VCCO_67, AN21 IO_L19N_T3L_N1_DBC_AD9N_67, AN22 IO_L20N_T3L_N3_AD1N_67, AN23 IO_L24P_T3U_N10_67, AN24 IO_L21N_T3L_N5_AD8N_67, AN26 IO_L7P_T1L_N0_QBC_AD13P_68, AN27 IO_L9P_T1L_N4_AD12P_68, AN28 IO_L9N_T1L_N5_AD12N_68, AN29 IO_L10P_T1U_N6_QBC_AD4P_68, AN30 VCCO_68, AN31 IO_L21P_T3L_N4_AD8P_68, AN32 IO_L23N_T3U_N9_68, AN33 IO_L20P_T3L_N2_AD1P_68, AN34 IO_L22P_T3U_N6_DBC_AD0P_68, AP20 IO_L22P_T3U_N6_DBC_AD0P_67, AP21 IO_L22N_T3U_N7_DBC_AD0N_67, AP23 IO_L24N_T3U_N11_67, AP24 IO_L23P_T3U_N8_67, AP25 IO_L23N_T3U_N9_67, AP26 IO_L7N_T1L_N1_QBC_AD13N_68, AP27 VCCO_68, AP28 IO_L8P_T1L_N2_AD5P_68, AP29 IO_L8N_T1L_N3_AD5N_68, AP30 IO_L10N_T1U_N7_QBC_AD4N_68, AP31 IO_L21N_T3L_N5_AD8N_68, AP33 IO_L20N_T3L_N3_AD1N_68, AP34 IO_L22N_T3U_N7_DBC_AD0N_68
part D pins: AA20 IO_L9P_T1L_N4_AD12P_69, AA22 IO_L7P_T1L_N0_QBC_AD13P_69, AA23 IO_L11N_T1U_N9_GC_69, AA24 IO_L12P_T1U_N10_GC_69, AA25 IO_L12N_T1U_N11_GC_69, AA26 VCCO_69, AA27 IO_L5P_T0U_N8_AD14P_69, AA28 IO_T0U_N12_VRP_69, AA29 IO_L16P_T2U_N6_QBC_AD3P_70, AA30 VREF_70, AA32 IO_L13P_T2L_N0_GC_QBC_70, AA33 IO_T2U_N12_70, AA34 IO_L17P_T2U_N8_AD10P_70, AB20 IO_L9N_T1L_N5_AD12N_69, AB21 IO_L10P_T1U_N6_QBC_AD4P_69, AB22 IO_L7N_T1L_N1_QBC_AD13N_69, AB23 VCCO_69, AB24 IO_L3P_T0L_N4_AD15P_69, AB25 IO_L6P_T0U_N10_AD6P_69, AB26 IO_L6N_T0U_N11_AD6N_69, AB27 IO_L5N_T0U_N9_AD14N_69, AB29 IO_L16N_T2U_N7_QBC_AD3N_70, AB30 IO_L14P_T2L_N2_GC_70, AB31 IO_L14N_T2L_N3_GC_70, AB32 IO_L13N_T2L_N1_GC_QBC_70, AB33 VCCO_70, AB34 IO_L17N_T2U_N9_AD10N_70, AC20 VCCO_69, AC21 IO_L10N_T1U_N7_QBC_AD4N_69, AC22 IO_L8P_T1L_N2_AD5P_69, AC23 IO_L8N_T1L_N3_AD5N_69, AC24 IO_L3N_T0L_N5_AD15N_69, AC26 IO_L4P_T0U_N6_DBC_AD7P_69, AC27 IO_L4N_T0U_N7_DBC_AD7N_69, AC28 IO_L3P_T0L_N4_AD15P_70, AC29 IO_T0U_N12_VRP_70, AC30 VCCO_70, AC31 IO_L12P_T1U_N10_GC_70, AC32 IO_L12N_T1U_N11_GC_70, AC33 IO_L18P_T2U_N10_AD2P_70, AC34 IO_L15P_T2L_N4_AD11P_70, AD25 IO_L2P_T0L_N2_69, AD26 IO_L2N_T0L_N3_69, AD27 VCCO_70, AD28 IO_L3N_T0L_N5_AD15N_70, AD29 IO_L5P_T0U_N8_AD14P_70, AD30 IO_L11P_T1U_N8_GC_70, AD31 IO_L11N_T1U_N9_GC_70, AD33 IO_L18N_T2U_N11_AD2N_70, AD34 IO_L15N_T2L_N5_AD11N_70, AE27 IO_L1P_T0L_N0_DBC_70, AE28 IO_L2P_T0L_N2_70, AE30 IO_L5N_T0U_N9_AD14N_70, AE31 IO_T1U_N12_70, AE32 IO_L9P_T1L_N4_AD12P_70, AE33 IO_L10P_T1U_N6_QBC_AD4P_70, AE34 VCCO_70, AF27 IO_L1N_T0L_N1_DBC_70, AF28 IO_L2N_T0L_N3_70, AF29 IO_L4P_T0U_N6_DBC_AD7P_70, AF30 IO_L6P_T0U_N10_AD6P_70, AF31 VCCO_70, AF32 IO_L9N_T1L_N5_AD12N_70, AF33 IO_L8P_T1L_N2_AD5P_70, AF34 IO_L10N_T1U_N7_QBC_AD4N_70, AG29 IO_L4N_T0U_N7_DBC_AD7N_70, AG30 IO_L6N_T0U_N11_AD6N_70, AG31 IO_L7P_T1L_N0_QBC_AD13P_70, AG32 IO_L7N_T1L_N1_QBC_AD13N_70, AG34 IO_L8N_T1L_N3_AD5N_70, T21 VCCO_69, T22 IO_L17P_T2U_N8_AD10P_69, T23 IO_L17N_T2U_N9_AD10N_69, U21 IO_L15P_T2L_N4_AD11P_69, U22 IO_L15N_T2L_N5_AD11N_69, U24 IO_L20P_T3L_N2_AD1P_69, U25 IO_L20N_T3L_N3_AD1N_69, U26 IO_L22P_T3U_N6_DBC_AD0P_69, U27 IO_L22N_T3U_N7_DBC_AD0N_69, U28 VCCO_69, U29 IO_T3U_N12_69, U34 IO_L23P_T3U_N8_70, V21 IO_L18P_T2U_N10_AD2P_69, V22 IO_L16P_T2U_N6_QBC_AD3P_69, V23 IO_L16N_T2U_N7_QBC_AD3N_69, V24 VREF_69, V25 VCCO_69, V26 IO_L24P_T3U_N10_69, V27 IO_L19P_T3L_N0_DBC_AD9P_69, V28 IO_L19N_T3L_N1_DBC_AD9N_69, V29 IO_L23P_T3U_N8_69, V31 IO_L24P_T3U_N10_70, V32 IO_T3U_N12_70, V33 IO_L21P_T3L_N4_AD8P_70, V34 IO_L23N_T3U_N9_70, W21 IO_L18N_T2U_N11_AD2N_69, W22 VCCO_69, W23 IO_L13P_T2L_N0_GC_QBC_69, W24 IO_L13N_T2L_N1_GC_QBC_69, W25 IO_L14P_T2L_N2_GC_69, W26 IO_L24N_T3U_N11_69, W28 IO_L21P_T3L_N4_AD8P_69, W29 IO_L23N_T3U_N9_69, W30 IO_L20P_T3L_N2_AD1P_70, W31 IO_L24N_T3U_N11_70, W32 VCCO_70, W33 IO_L19P_T3L_N0_DBC_AD9P_70, W34 IO_L21N_T3L_N5_AD8N_70, Y21 IO_T2U_N12_69, Y22 IO_T1U_N12_69, Y23 IO_L11P_T1U_N8_GC_69, Y25 IO_L14N_T2L_N3_GC_69, Y26 IO_L1P_T0L_N0_DBC_69, Y27 IO_L1N_T0L_N1_DBC_69, Y28 IO_L21N_T3L_N5_AD8N_69, Y29 VCCO_70, Y30 IO_L20N_T3L_N3_AD1N_70, Y31 IO_L22P_T3U_N6_DBC_AD0P_70, Y32 IO_L22N_T3U_N7_DBC_AD0N_70, Y33 IO_L19N_T3L_N1_DBC_AD9N_70
part E pins: A8 IO_T0U_N12_VRP_66, A9 IO_L2N_T0L_N3_66, A10 IO_L4N_T0U_N7_DBC_AD7N_66, A12 IO_L23N_T3U_N9_66, A13 IO_L23P_T3U_N8_66, B9 IO_L2P_T0L_N2_66, B10 IO_L4P_T0U_N6_DBC_AD7P_66, B11 IO_L21N_T3L_N5_AD8N_66, B12 IO_L20N_T3L_N3_AD1N_66, B13 VCCO_66, C8 IO_L3N_T0L_N5_AD15N_66, C9 IO_L5N_T0U_N9_AD14N_66, C10 VCCO_66, C11 IO_L21P_T3L_N4_AD8P_66, C12 IO_L20P_T3L_N2_AD1P_66, C13 IO_L24N_T3U_N11_66, D8 IO_L3P_T0L_N4_AD15P_66, D9 IO_L5P_T0U_N8_AD14P_66, D10 IO_L6N_T0U_N11_AD6N_66, D11 IO_L19N_T3L_N1_DBC_AD9N_66, D13 IO_L24P_T3U_N10_66, E8 IO_L1N_T0L_N1_DBC_66, E10 IO_L6P_T0U_N10_AD6P_66, E11 IO_L19P_T3L_N0_DBC_AD9P_66, E12 IO_T3U_N12_66, E13 IO_L22N_T3U_N7_DBC_AD0N_66, F8 IO_L1P_T0L_N0_DBC_66, F9 IO_L11N_T1U_N9_GC_66, F10 IO_L12N_T1U_N11_GC_66, F11 VCCO_66, F12 IO_T2U_N12_66, F13 IO_L22P_T3U_N6_DBC_AD0P_66, G8 VCCO_66, G9 IO_L11P_T1U_N8_GC_66, G10 IO_L12P_T1U_N10_GC_66, G11 IO_L13N_T2L_N1_GC_QBC_66, G12 IO_L14N_T2L_N3_GC_66, G25 IO_L2P_T0L_N2_FOE_B_65, G26 IO_L2N_T0L_N3_FWE_FCS2_B_65, G27 IO_L1N_T0L_N1_DBC_RS1_65, H8 IO_L9N_T1L_N5_AD12N_66, H9 IO_L8N_T1L_N3_AD5N_66, H11 IO_L13P_T2L_N0_GC_QBC_66, H12 IO_L14P_T2L_N2_GC_66, H13 IO_L18N_T2U_N11_AD2N_66, H23 IO_T0U_N12_VRP_A28_65, H24 IO_L6N_T0U_N11_AD6N_A21_65, H25 VCCO_65, H26 IO_L5N_T0U_N9_AD14N_A23_65, H27 IO_L1P_T0L_N0_DBC_RS0_65, J8 IO_L9P_T1L_N4_AD12P_66, J9 IO_L8P_T1L_N2_AD5P_66, J10 IO_L10N_T1U_N7_QBC_AD4N_66, J11 IO_L15N_T2L_N5_AD11N_66, J12 VCCO_66, J13 IO_L18P_T2U_N10_AD2P_66, J21 VREF_65, J22 VCCO_65, J23 IO_L6P_T0U_N10_AD6P_A20_65, J24 IO_L4P_T0U_N6_DBC_AD7P_A24_65, J25 IO_L4N_T0U_N7_DBC_AD7N_A25_65, J26 IO_L5P_T0U_N8_AD14P_A22_65, K8 IO_L7N_T1L_N1_QBC_AD13N_66, K9 VCCO_66, K10 IO_L10P_T1U_N6_QBC_AD4P_66, K11 IO_L15P_T2L_N4_AD11P_66, K12 IO_L17N_T2U_N9_AD10N_66, K13 IO_L16N_T2U_N7_QBC_AD3N_66, K20 IO_L24P_T3U_N10_EMCCLK_65, K21 IO_L24N_T3U_N11_DOUT_CSO_B_65, K22 IO_T3U_N12_PERSTN0_65, K23 IO_L10N_T1U_N7_QBC_AD4N_A13_D29_65, K25 IO_L9N_T1L_N5_AD12N_A15_D31_65, K26 IO_L3P_T0L_N4_AD15P_A26_65, K27 IO_L3N_T0L_N5_AD15N_A27_65, L8 IO_L7P_T1L_N0_QBC_AD13P_66, L9 IO_T1U_N12_66, L10 VREF_66, L12 IO_L17P_T2U_N8_AD10P_66, L13 IO_L16P_T2U_N6_QBC_AD3P_66, L20 IO_L22N_T3U_N7_DBC_AD0N_D05_65, L22 IO_L10P_T1U_N6_QBC_AD4P_A12_D28_65, L23 IO_L8P_T1L_N2_AD5P_A16_65, L24 IO_L8N_T1L_N3_AD5N_A17_65, L25 IO_L9P_T1L_N4_AD12P_A14_D30_65, L26 VCCO_65, L27 IO_L7N_T1L_N1_QBC_AD13N_A19_65, M20 IO_L22P_T3U_N6_DBC_AD0P_D04_65, M21 IO_L23N_T3U_N9_PERSTN1_I2C_SDA_65, M22 IO_L19N_T3L_N1_DBC_AD9N_D11_65, M23 VCCO_65, M24 IO_L12N_T1U_N11_GC_A09_D25_65, M25 IO_L11P_T1U_N8_GC_A10_D26_65, M26 IO_L11N_T1U_N9_GC_A11_D27_65, M27 IO_L7P_T1L_N0_QBC_AD13P_A18_65, N20 VCCO_65, N21 IO_L23P_T3U_N8_I2C_SCLK_65, N22 IO_L19P_T3L_N0_DBC_AD9P_D10_65, N23 IO_T1U_N12_SMBALERT_65, N24 IO_L12P_T1U_N10_GC_A08_D24_65, N26 IO_L13N_T2L_N1_GC_QBC_A07_D23_65, N27 IO_T2U_N12_CSI_ADV_B_65, P20 IO_L20P_T3L_N2_AD1P_D08_65, P21 IO_L20N_T3L_N3_AD1N_D09_65, P23 IO_L18N_T2U_N11_AD2N_D13_65, P24 IO_L14P_T2L_N2_GC_A04_D20_65, P25 IO_L14N_T2L_N3_GC_A05_D21_65, P26 IO_L13P_T2L_N0_GC_QBC_A06_D22_65, P27 VCCO_65, R21 IO_L21P_T3L_N4_AD8P_D06_65, R22 IO_L21N_T3L_N5_AD8N_D07_65, R23 IO_L18P_T2U_N10_AD2P_D12_65, R24 VCCO_65, R25 IO_L17P_T2U_N8_AD10P_D14_65, R26 IO_L17N_T2U_N9_AD10N_D15_65, R27 IO_L15N_T2L_N5_AD11N_A03_D19_65, T24 IO_L16P_T2U_N6_QBC_AD3P_A00_D16_65, T25 IO_L16N_T2U_N7_QBC_AD3N_A01_D17_65, T27 IO_L15P_T2L_N4_AD11P_A02_D18_65
part F pins: A14 IO_L1N_T0L_N1_DBC_72, A15 IO_L3N_T0L_N5_AD15N_72, A16 VCCO_72, A17 IO_T0U_N12_VRP_72, A18 IO_L2N_T0L_N3_72, A19 IO_L2P_T0L_N2_72, A20 IO_L17N_T2U_N9_AD10N_71, A22 IO_T2U_N12_71, A23 IO_T1U_N12_71, A24 IO_L10N_T1U_N7_QBC_AD4N_71, A25 IO_L8N_T1L_N3_AD5N_71, A26 VCCO_71, A27 IO_L6P_T0U_N10_AD6P_71, A28 IO_L6N_T0U_N11_AD6N_71, A29 IO_L4N_T0U_N7_DBC_AD7N_71, B14 IO_L1P_T0L_N0_DBC_72, B15 IO_L3P_T0L_N4_AD15P_72, B16 IO_L5N_T0U_N9_AD14N_72, B17 IO_L5P_T0U_N8_AD14P_72, B19 IO_L4N_T0U_N7_DBC_AD7N_72, B20 IO_L17P_T2U_N8_AD10P_71, B21 IO_L15P_T2L_N4_AD11P_71, B22 IO_L15N_T2L_N5_AD11N_71, B23 VCCO_71, B24 IO_L10P_T1U_N6_QBC_AD4P_71, B25 IO_L8P_T1L_N2_AD5P_71, B26 IO_L9N_T1L_N5_AD12N_71, B27 IO_L2N_T0L_N3_71, B29 IO_L4P_T0U_N6_DBC_AD7P_71, C14 IO_L7N_T1L_N1_QBC_AD13N_72, C16 IO_T1U_N12_72, C17 IO_L6N_T0U_N11_AD6N_72, C18 IO_L6P_T0U_N10_AD6P_72, C19 IO_L4P_T0U_N6_DBC_AD7P_72, C20 VCCO_71, C21 IO_L16P_T2U_N6_QBC_AD3P_71, C22 IO_L16N_T2U_N7_QBC_AD3N_71, C23 IO_L13N_T2L_N1_GC_QBC_71, C24 IO_L12N_T1U_N11_GC_71, C26 IO_L9P_T1L_N4_AD12P_71, C27 IO_L2P_T0L_N2_71, C28 IO_L5N_T0U_N9_AD14N_71, C29 IO_T0U_N12_VRP_71, D14 IO_L7P_T1L_N0_QBC_AD13P_72, D15 IO_L8N_T1L_N3_AD5N_72, D16 IO_L11N_T1U_N9_GC_72, D17 VCCO_72, D18 IO_L10N_T1U_N7_QBC_AD4N_72, D19 IO_L10P_T1U_N6_QBC_AD4P_72, D20 IO_L18P_T2U_N10_AD2P_71, D21 IO_L18N_T2U_N11_AD2N_71, D23 IO_L13P_T2L_N0_GC_QBC_71, D24 IO_L12P_T1U_N10_GC_71, D25 IO_L11N_T1U_N9_GC_71, D26 IO_L7N_T1L_N1_QBC_AD13N_71, D27 VCCO_71, D28 IO_L5P_T0U_N8_AD14P_71, D29 IO_L3N_T0L_N5_AD15N_71, E14 VCCO_72, E15 IO_L8P_T1L_N2_AD5P_72, E16 IO_L11P_T1U_N8_GC_72, E17 IO_L12N_T1U_N11_GC_72, E18 IO_L12P_T1U_N10_GC_72, E20 IO_L20P_T3L_N2_AD1P_71, E21 IO_L20N_T3L_N3_AD1N_71, E22 IO_L14P_T2L_N2_GC_71, E23 IO_L14N_T2L_N3_GC_71, E24 VCCO_71, E25 IO_L11P_T1U_N8_GC_71, E26 IO_L7P_T1L_N0_QBC_AD13P_71, E27 IO_L1N_T0L_N1_DBC_71, E28 IO_L3P_T0L_N4_AD15P_71, F14 IO_L9N_T1L_N5_AD12N_72, F15 IO_L9P_T1L_N4_AD12P_72, F17 IO_L14N_T2L_N3_GC_72, F18 IO_L14P_T2L_N2_GC_72, F19 IO_L16N_T2U_N7_QBC_AD3N_72, F20 IO_L22N_T3U_N7_DBC_AD0N_71, F21 VCCO_71, F22 IO_L23N_T3U_N9_71, F23 IO_L21P_T3L_N4_AD8P_71, F24 IO_L21N_T3L_N5_AD8N_71, F25 IO_L19N_T3L_N1_DBC_AD9N_71, F27 IO_L1P_T0L_N0_DBC_71, G14 IO_L15N_T2L_N5_AD11N_72, G15 IO_L15P_T2L_N4_AD11P_72, G16 IO_L13N_T2L_N1_GC_QBC_72, G17 IO_L13P_T2L_N0_GC_QBC_72, G18 VCCO_72, G19 IO_L16P_T2U_N6_QBC_AD3P_72, G20 IO_L22P_T3U_N6_DBC_AD0P_71, G21 IO_L24N_T3U_N11_71, G22 IO_L23P_T3U_N8_71, G24 IO_L19P_T3L_N0_DBC_AD9P_71, H14 IO_T2U_N12_72, H15 VCCO_72, H16 IO_L17N_T2U_N9_AD10N_72, H17 IO_L17P_T2U_N8_AD10P_72, H18 IO_L18N_T2U_N11_AD2N_72, H19 IO_L18P_T2U_N10_AD2P_72, H21 IO_L24P_T3U_N10_71, H22 IO_T3U_N12_71, J14 IO_L19N_T3L_N1_DBC_AD9N_72, J15 IO_L19P_T3L_N0_DBC_AD9P_72, J16 IO_L23N_T3U_N9_72, J18 IO_L22N_T3U_N7_DBC_AD0N_72, J19 IO_L22P_T3U_N6_DBC_AD0P_72, J20 VREF_71, K15 IO_L21N_T3L_N5_AD8N_72, K16 IO_L23P_T3U_N8_72, K17 IO_L20N_T3L_N3_AD1N_72, K18 IO_L20P_T3L_N2_AD1P_72, K19 VCCO_72, L14 VREF_72, L15 IO_L21P_T3L_N4_AD8P_72, L16 VCCO_72, L17 IO_T3U_N12_72, L18 IO_L24N_T3U_N11_72, L19 IO_L24P_T3U_N10_72
part G pins: A3 MGTHRXN3_228, A4 MGTHRXP3_228, A33 MGTAVTTRCAL_L, A34 MGTRREF_L, AA3 MGTHTXN0_226, AA4 MGTHTXP0_226, AB1 MGTHRXN3_225, AB2 MGTHRXP3_225, AB5 MGTREFCLK0N_225, AB6 MGTREFCLK0P_225, AC3 MGTHTXN3_225, AC4 MGTHTXP3_225, AD1 MGTHRXN2_225, AD2 MGTHRXP2_225, AD5 MGTREFCLK1N_224, AD6 MGTREFCLK1P_224, AE3 MGTHTXN2_225, AE4 MGTHTXP2_225, AF1 MGTHRXN1_225, AF2 MGTHRXP1_225, AF5 MGTREFCLK0N_224, AF6 MGTREFCLK0P_224, AG3 MGTHTXN1_225, AG4 MGTHTXP1_225, AH1 MGTHRXN0_225, AH2 MGTHRXP0_225, AH5 MGTHTXN0_225, AH6 MGTHTXP0_225, AJ3 MGTHRXN3_224, AJ4 MGTHRXP3_224, AK1 MGTHRXN2_224, AK2 MGTHRXP2_224, AK5 MGTHTXN3_224, AK6 MGTHTXP3_224, AL3 MGTHTXN2_224, AL4 MGTHTXP2_224, AM1 MGTHRXN1_224, AM2 MGTHRXP1_224, AM5 MGTHTXN1_224, AM6 MGTHTXP1_224, AN3 MGTHTXN0_224, AN4 MGTHTXP0_224, AP1 MGTHRXN0_224, AP2 MGTHRXP0_224, AP5 MGTRREF_R, AP6 MGTAVTTRCAL_R, B1 MGTHRXN2_228, B2 MGTHRXP2_228, B5 MGTHTXN3_228, B6 MGTHTXP3_228, B31 MGTYTXP3_130, B32 MGTYTXN3_130, C3 MGTHTXN2_228, C4 MGTHTXP2_228, C33 MGTYRXP3_130, C34 MGTYRXN3_130, D1 MGTHRXN1_228, D2 MGTHRXP1_228, D5 MGTHTXN1_228, D6 MGTHTXP1_228, D31 MGTYTXP2_130, D32 MGTYTXN2_130, E3 MGTHRXN0_228, E4 MGTHRXP0_228, E33 MGTYRXP2_130, E34 MGTYRXN2_130, F1 MGTHRXN3_227, F2 MGTHRXP3_227, F5 MGTHTXN0_228, F6 MGTHTXP0_228, F31 MGTYRXP1_130, F32 MGTYRXN1_130, G3 MGTHTXN3_227, G4 MGTHTXP3_227, G29 MGTYTXP1_130, G30 MGTYTXN1_130, G33 MGTYRXP0_130, G34 MGTYRXN0_130, H1 MGTHRXN2_227, H2 MGTHRXP2_227, H5 MGTREFCLK1N_228, H6 MGTREFCLK1P_228, H31 MGTYTXP0_130, H32 MGTYTXN0_130, J3 MGTHTXN2_227, J4 MGTHTXP2_227, J29 MGTREFCLK1P_130, J30 MGTREFCLK1N_130, J33 MGTYRXP3_129, J34 MGTYRXN3_129, K1 MGTHRXN1_227, K2 MGTHRXP1_227, K5 MGTREFCLK0N_228, K6 MGTREFCLK0P_228, K31 MGTYTXP3_129, K32 MGTYTXN3_129, L3 MGTHTXN1_227, L4 MGTHTXP1_227, L29 MGTREFCLK0P_130, L30 MGTREFCLK0N_130, L33 MGTYRXP2_129, L34 MGTYRXN2_129, M1 MGTHRXN0_227, M2 MGTHRXP0_227, M5 MGTREFCLK1N_227, M6 MGTREFCLK1P_227, M31 MGTYTXP2_129, M32 MGTYTXN2_129, N3 MGTHTXN0_227, N4 MGTHTXP0_227, N29 MGTREFCLK1P_129, N30 MGTREFCLK1N_129, N33 MGTYRXP1_129, N34 MGTYRXN1_129, P1 MGTHRXN3_226, P2 MGTHRXP3_226, P5 MGTREFCLK0N_227, P6 MGTREFCLK0P_227, P31 MGTYTXP1_129, P32 MGTYTXN1_129, R3 MGTHTXN3_226, R4 MGTHTXP3_226, R29 MGTREFCLK0P_129, R30 MGTREFCLK0N_129, R33 MGTYRXP0_129, R34 MGTYRXN0_129, T1 MGTHRXN2_226, T2 MGTHRXP2_226, T5 MGTREFCLK1N_226, T6 MGTREFCLK1P_226, T31 MGTYTXP0_129, T32 MGTYTXN0_129, U3 MGTHTXN2_226, U4 MGTHTXP2_226, V1 MGTHRXN1_226, V2 MGTHRXP1_226, V5 MGTREFCLK0N_226, V6 MGTREFCLK0P_226, W3 MGTHTXN1_226, W4 MGTHTXP1_226, Y1 MGTHRXN0_226, Y2 MGTHRXP0_226, Y5 MGTREFCLK1N_225, Y6 MGTREFCLK1P_225
part H pins: AA6 MGTVCCAUX_R, AA8 VCCAUX, AA10 VCCINT, AA12 VCCINT, AA14 VCCINT, AA16 VCCINT, AA18 VCCBRAM, AB11 VCCINT, AB13 VCCINT, AB15 VCCINT, AB17 VCCBRAM, AB19 VCCAUX_IO, AC2 MGTAVTT_R, AC6 MGTAVCC_R, AC8 VCCAUX, AC10 VCCINT, AC12 VCCINT, AC14 VCCINT, AC16 VCCINT, AC18 VCCAUX_IO, AD3 MGTAVTT_R, AE6 MGTAVCC_R, AG2 MGTAVTT_R, AG6 MGTAVCC_R, AH3 MGTAVTT_R, AJ6 MGTAVCC_R, AL2 MGTAVTT_R, AL6 MGTAVCC_R, AM3 MGTAVTT_R, AN6 MGTAVCC_R, C2 MGTAVTT_R, C6 MGTAVCC_R, C32 MGTAVTT_L, D3 MGTAVTT_R, D33 MGTAVTT_L, E6 MGTAVCC_R, E31 MGTAVCC_L, F30 MGTAVCC_L, G2 MGTAVTT_R, G6 MGTAVCC_R, G32 MGTAVTT_L, H3 MGTAVTT_R, H29 MGTAVCC_L, H33 MGTAVTT_L, J6 MGTAVCC_R, J31 MGTAVCC_L, K29 MGTVCCAUX_L, K33 MGTAVTT_L, L2 MGTAVTT_R, L6 MGTAVCC_R, L32 MGTAVTT_L, M3 MGTAVTT_R, M9 VCCINT, M11 VCCINT, M13 VCCINT, M15 VCCINT, M17 VCCINT_IO, M19 VCCAUX_IO, M29 MGTVCCAUX_L, N6 MGTAVCC_R, N8 VCCINT, N10 VCCINT, N12 VCCINT, N14 VCCINT, N16 VCCINT, N18 VCCAUX_IO, N31 MGTAVCC_L, P9 VCCINT, P11 VCCINT, P13 VCCINT, P15 VCCINT, P17 VCCINT_IO, P19 VCCAUX_IO, P29 MGTAVCC_L, P33 MGTAVTT_L, R2 MGTAVTT_R, R6 MGTVCCAUX_R, R8 VCCINT, R10 VCCINT, R12 VCCINT, R14 VCCINT, R16 VCCINT, R18 VCCINT_IO, R20 VCCAUX_IO, R32 MGTAVTT_L, T3 MGTAVTT_R, T9 VCCINT, T11 VCCINT, T13 VCCINT, T15 VCCINT, T17 VCCINT, T19 VCCAUX_IO, U6 MGTAVCC_R, U8 VCCAUX, U10 VCCINT, U14 VCCINT, U16 VCCINT, U18 VCCINT_IO, U20 VCCAUX_IO, V13 VCCINT, V15 VCCINT, V17 VCCBRAM, V19 VCCAUX_IO, W2 MGTAVTT_R, W6 MGTAVCC_R, W8 VCCAUX, W10 VCCINT, W14 VCCINT, W16 VCCINT, W18 VCCINT_IO, W20 VCCAUX_IO, Y3 MGTAVTT_R, Y13 VCCINT, Y15 VCCINT, Y17 VCCBRAM, Y19 VCCAUX_IO
part I pins: A1 GND, A2 GND, A5 GND, A6 GND, A7 GND, A11 GND, A21 GND, A30 GND, A31 GND, A32 GND, AA1 GND, AA2 GND, AA5 GND, AA11 GND, AA13 GND, AA15 GND, AA17 GND, AA19 GND, AA21 GND, AA31 GND, AB3 GND, AB4 GND, AB8 GND, AB10 GND, AB12 GND, AB14 GND, AB16 GND, AB18 GND, AB28 GND, AC1 GND, AC5 GND, AC11 GND, AC13 GND, AC15 GND, AC17 GND, AC19 GND, AC25 GND, AD4 GND, AD12 GND, AD22 GND, AD32 GND, AE1 GND, AE2 GND, AE5 GND, AE7 GND, AE9 GND, AE19 GND, AE29 GND, AF3 GND, AF4 GND, AF7 GND, AF16 GND, AF26 GND, AG1 GND, AG5 GND, AG7 GND, AG13 GND, AG23 GND, AG33 GND, AH4 GND, AH7 GND, AH10 GND, AH20 GND, AH30 GND, AJ1 GND, AJ2 GND, AJ5 GND, AJ7 GND, AJ17 GND, AJ27 GND, AK3 GND, AK4 GND, AK7 GND, AK14 GND, AK24 GND, AK34 GND, AL1 GND, AL5 GND, AL7 GND, AL11 GND, AL21 GND, AL31 GND, AM4 GND, AM7 GND, AM8 GND, AM18 GND, AM28 GND, AN1 GND, AN2 GND, AN5 GND, AN7 GND, AN15 GND, AN25 GND, AP3 GND, AP4 GND, AP7 GND, AP12 GND, AP22 GND, AP32 GND, B3 GND, B4 GND, B7 GND, B8 GND, B18 GND, B28 GND, B30 GND, B33 GND, B34 GND, C1 GND, C5 GND, C7 GND, C15 GND, C25 GND, C30 GND, C31 GND, D4 GND, D7 GND, D12 GND, D22 GND, D30 GND, D34 GND, E1 GND, E2 GND, E5 GND, E7 GND, E9 GND, E19 GND, E29 GND, E30 GND, E32 GND, F3 GND, F4 GND, F7 GND, F16 GND, F26 GND, F28 GND, F29 GND, F33 GND, F34 GND, G1 GND, G5 GND, G7 GND, G13 GND, G23 GND, G28 GND, G31 GND, H4 GND, H7 GND, H10 GND, H20 GND, H28 GND, H30 GND, H34 GND, J1 GND, J2 GND, J5 GND, J7 GND, J17 GND, J27 GND, J28 GND, J32 GND, K3 GND, K4 GND, K14 GND, K24 GND, K28 GND, K30 GND, K34 GND, L1 GND, L5 GND, L11 GND, L21 GND, L28 GND, L31 GND, M4 GND, M8 GND, M10 GND, M12 GND, M14 GND, M16 GND, M18 GND, M28 GND, M30 GND, M33 GND, M34 GND, N1 GND, N2 GND, N5 GND, N9 GND, N11 GND, N13 GND, N15 GND, N17 GND, N19 GND, N25 GND, N28 GND, N32 GND, P3 GND, P4 GND, P8 GND, P10 GND, P12 GND, P14 GND, P16 GND, P18 GND, P22 GND, P28 GND, P30 GND, P34 GND, R1 GND, R5 GND, R9 GND, R11 GND, R13 GND, R15 GND, R17 GND, R19 GND, R28 GND, R31 GND, T4 GND, T8 GND, T10 GND, T12 GND, T14 GND, T16 GND, T18 GND, T20 GND, T26 GND, T28 GND, T29 GND, T30 GND, T33 GND, T34 GND, U1 GND, U2 GND, U5 GND, U13 GND, U15 GND, U17 GND, U19 GND, U23 GND, U30 GND, U31 GND, U32 GND, U33 GND, V3 GND, V4 GND, V8 GND, V10 GND, V14 GND, V16 GND, V18 GND, V20 GND, V30 GND, W1 GND, W5 GND, W13 GND, W15 GND, W17 GND, W19 GND, W27 GND, Y4 GND, Y8 GND, Y10 GND, Y14 GND, Y16 GND, Y18 GND, Y20 GND, Y24 GND, Y34 GND
part A text: Bank0; FFVA1156 compatibility:; KU025, 035, 040, 060, 095, 11P, 15P
part B text: Bank91/90_HD; Bank64_HP; HR in KU; BANK91; BANK90
part C text: Bank67_HP; Bank68_HP; DOESN'T EXIST IN KU11P
part D text: Bank69_HP; Bank70_HP; DOESN'T EXIST IN KU025
part E text: Bank65_HP; Bank66_HP; HR in KU025,035,040,060
part F text: Bank71_HP; Bank72_HP; DOESN'T EXIST IN KU025
part G text: MGT_L; MGT_R; BANK127_GTH; BANK224_GTH; DOESN'T EXIST IN : KU025, KU035, KU040; BANK128_GTH; BANK225_GTH; BANK226_GTH; BANK228_GTH; BANK227_GTH; DOESN'T EXIST IN : KU025, KU035; DOESN'T EXIST IN : KU025
part I text: GND-PINS

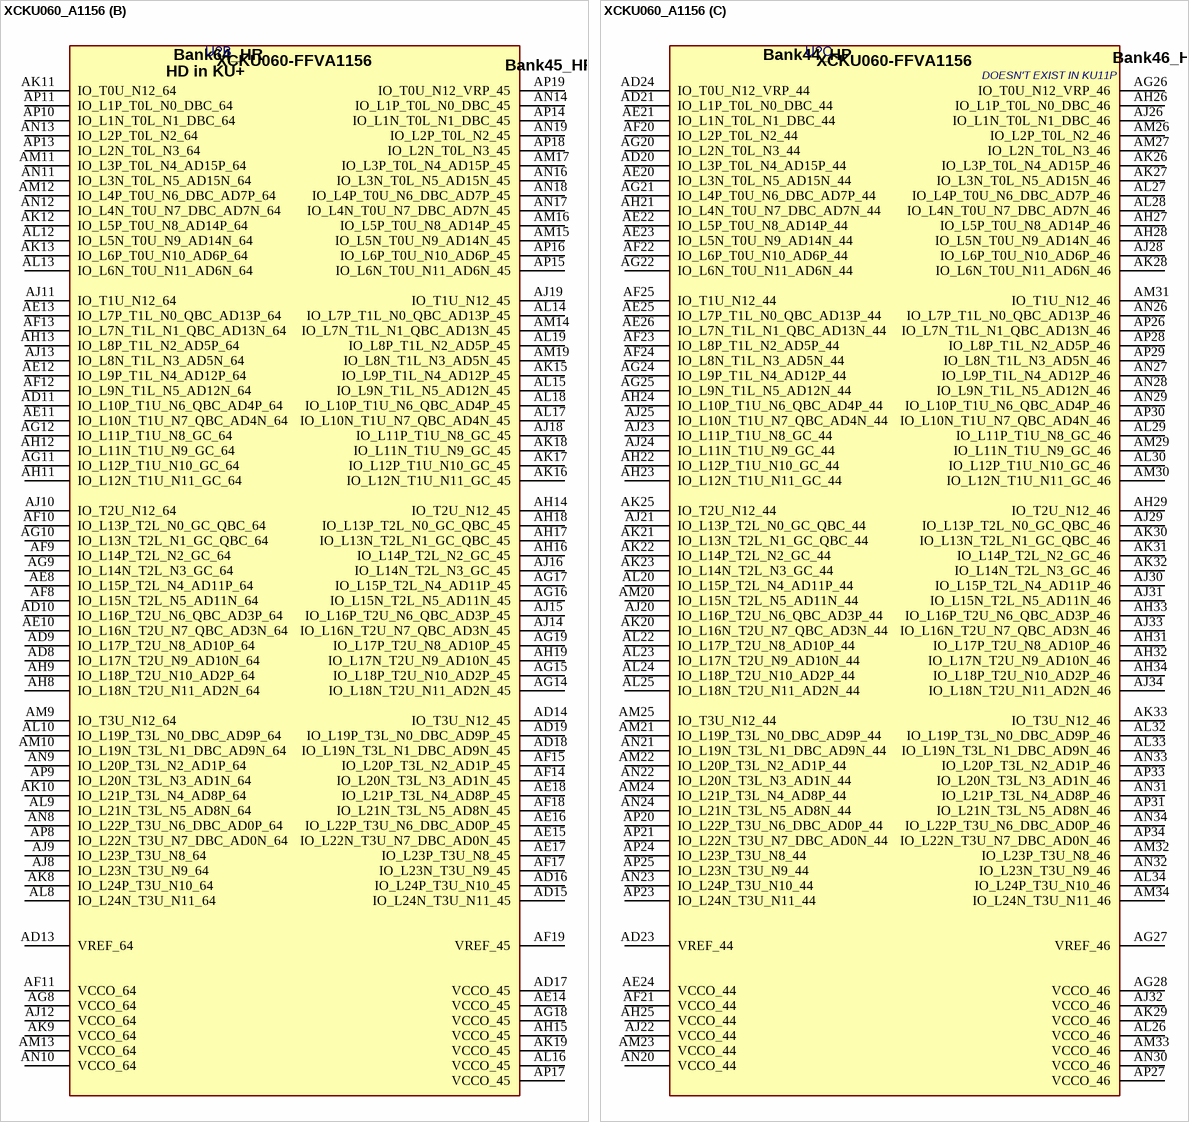
[diagram p7: symbol XCKU060_A1156]

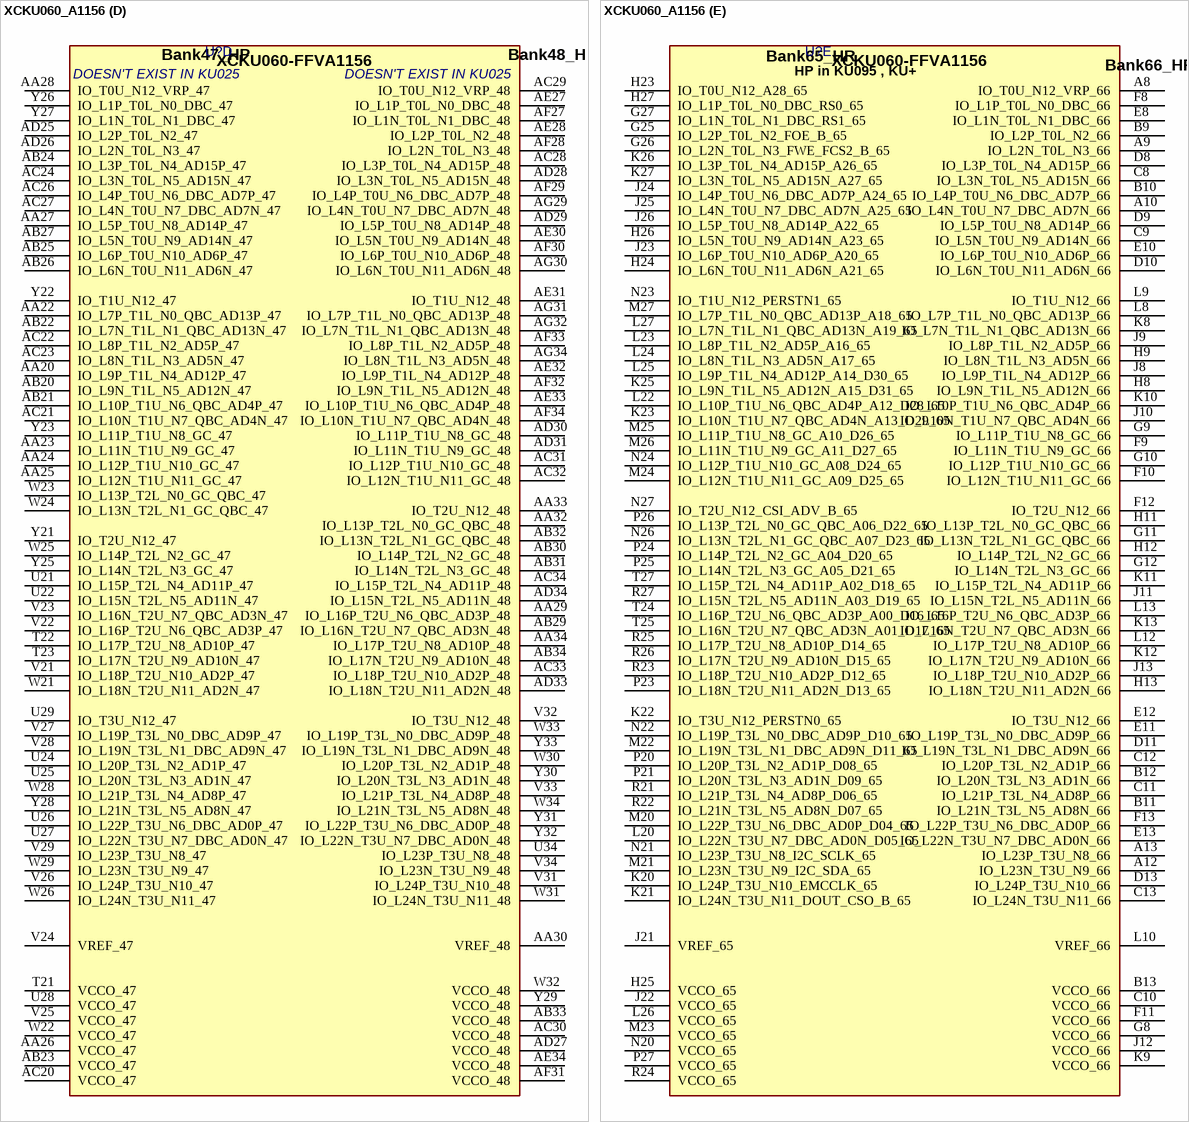
[diagram p8: symbol XCKU060_A1156]

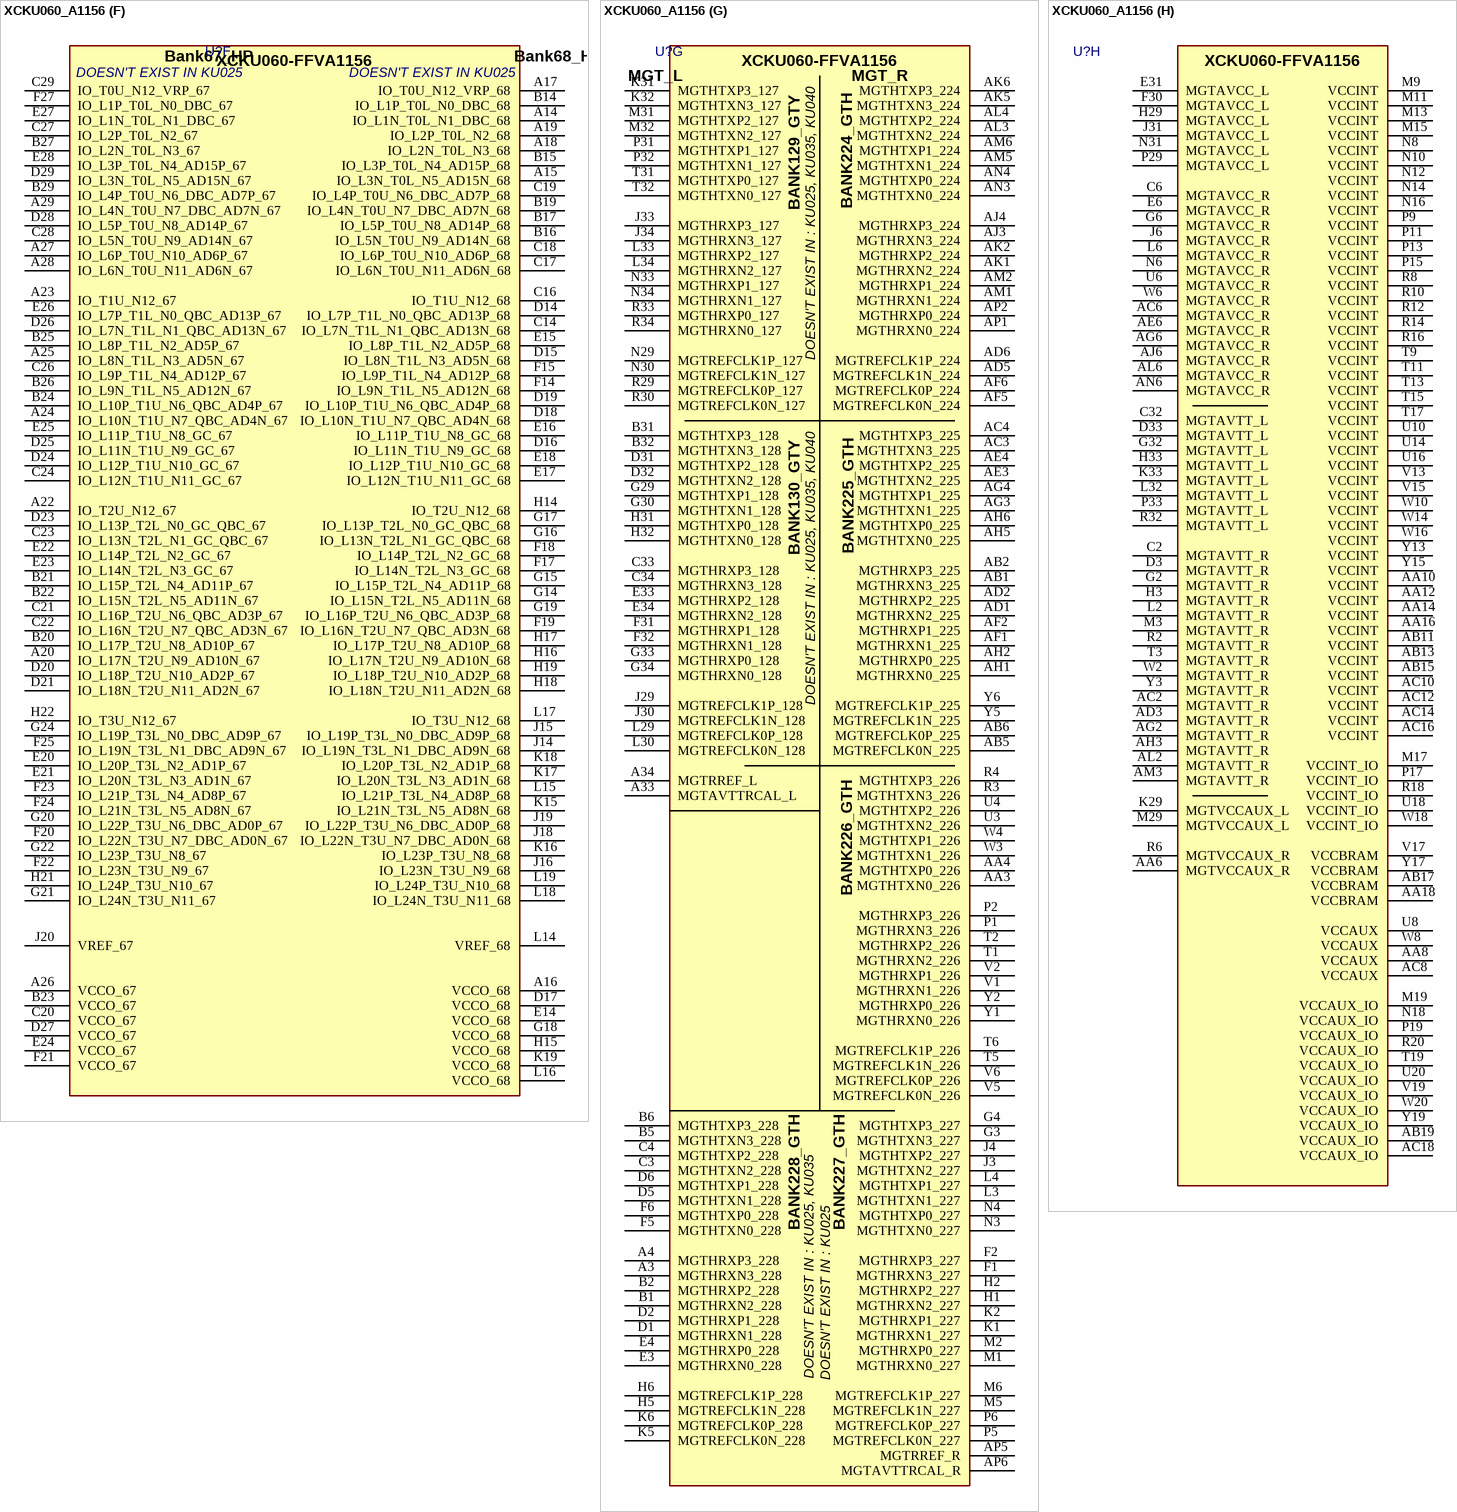
[diagram p9: symbol XCKU060_A1156]

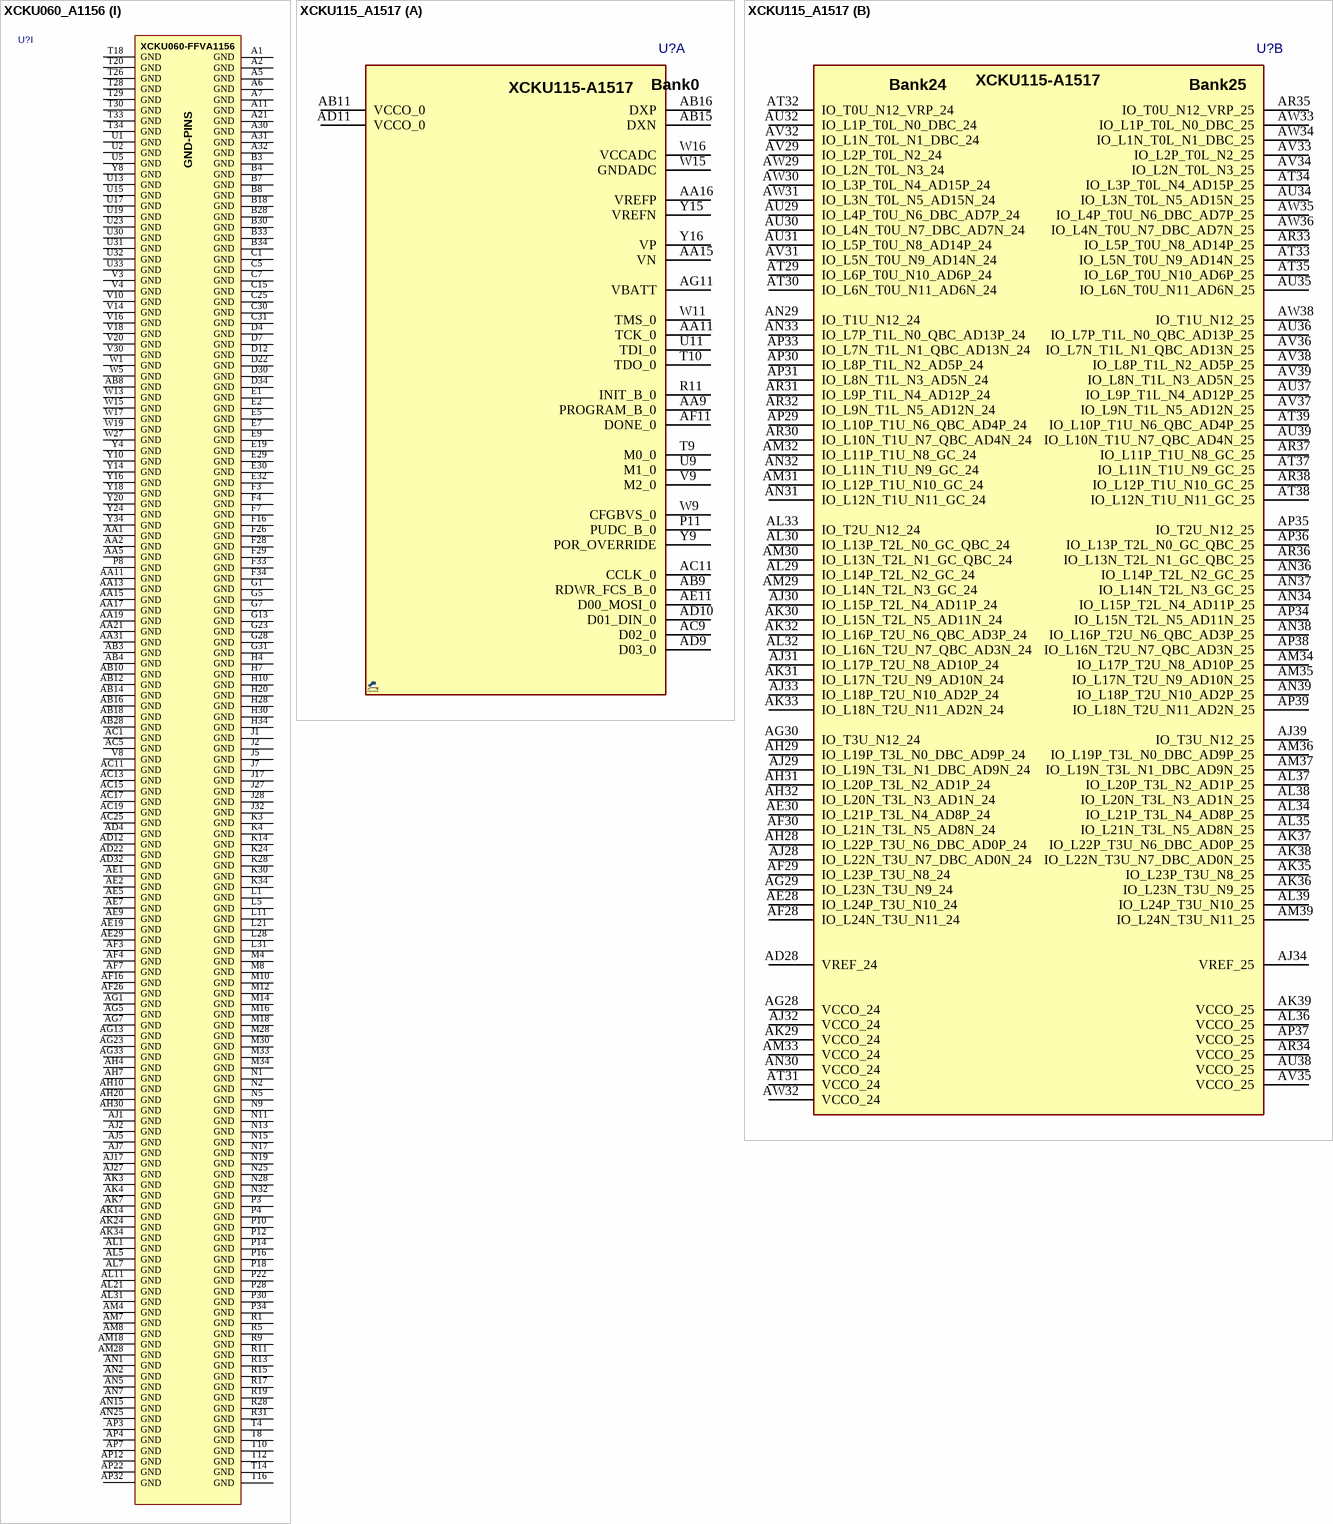
[diagram p10: symbols XCKU060_A1156 to XCKU115_A1517]